# Altium integrated library rcl.IntLib: 895 symbols (part 2 of 3)
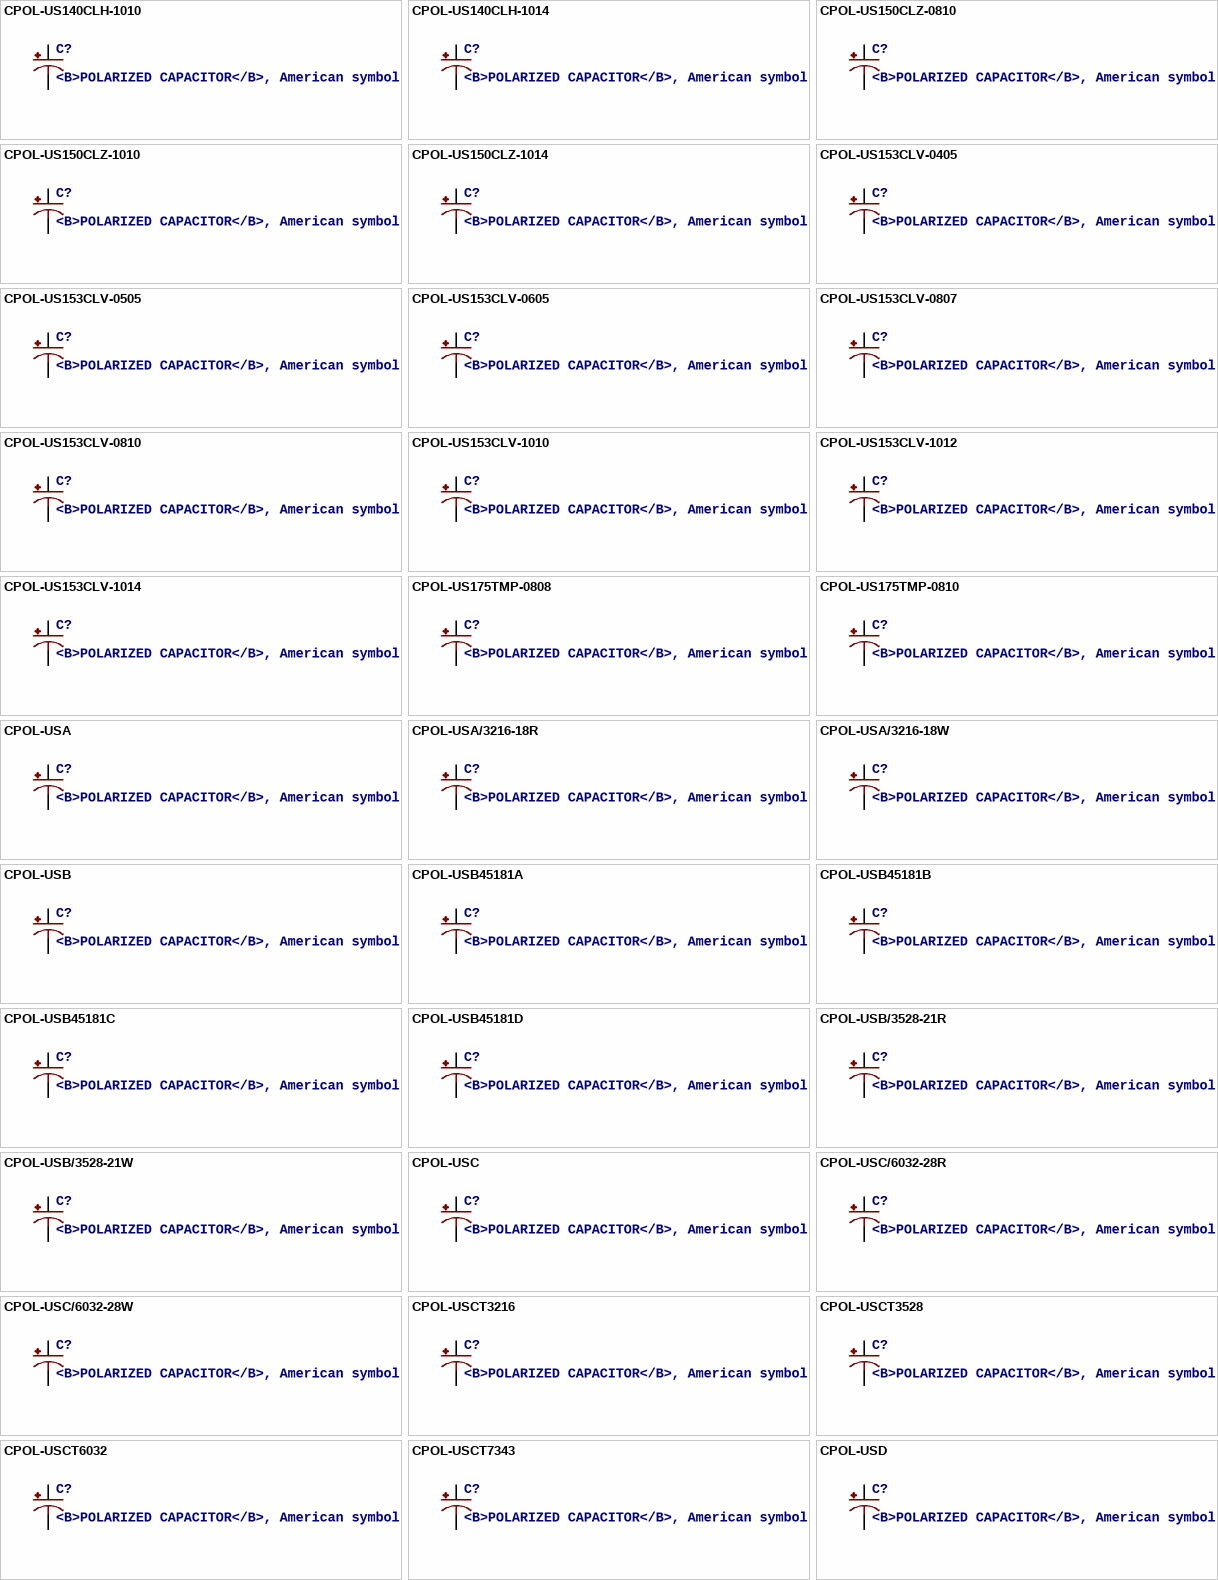
[diagram p24: symbols CPOL-US140CLH-1010 to CPOL-USD]

## CPOL-USC
designator C?, comment <B>POLARIZED CAPACITOR</B>, American symbol
SPICEPREFIX: C
footprint PANASONIC_C
pins: +, -

## CPOL-USC/6032-28R
designator C?, comment <B>POLARIZED CAPACITOR</B>, American symbol
SPICEPREFIX: C
footprint C/6032-28R
pins: +, -

## CPOL-USC/6032-28W
designator C?, comment <B>POLARIZED CAPACITOR</B>, American symbol
SPICEPREFIX: C
footprint C/6032-28W
pins: +, -

## CPOL-USCT3216
designator C?, comment <B>POLARIZED CAPACITOR</B>, American symbol
SPICEPREFIX: C
footprint CT3216
pins: +, -

## CPOL-USCT3528
designator C?, comment <B>POLARIZED CAPACITOR</B>, American symbol
SPICEPREFIX: C
footprint CT3528
pins: +, -

## CPOL-USCT6032
designator C?, comment <B>POLARIZED CAPACITOR</B>, American symbol
SPICEPREFIX: C
footprint CT6032
pins: +, -

## CPOL-USCT7343
designator C?, comment <B>POLARIZED CAPACITOR</B>, American symbol
SPICEPREFIX: C
footprint CT7343
pins: +, -

## CPOL-USD
designator C?, comment <B>POLARIZED CAPACITOR</B>, American symbol
SPICEPREFIX: C
footprint PANASONIC_D
pins: +, -

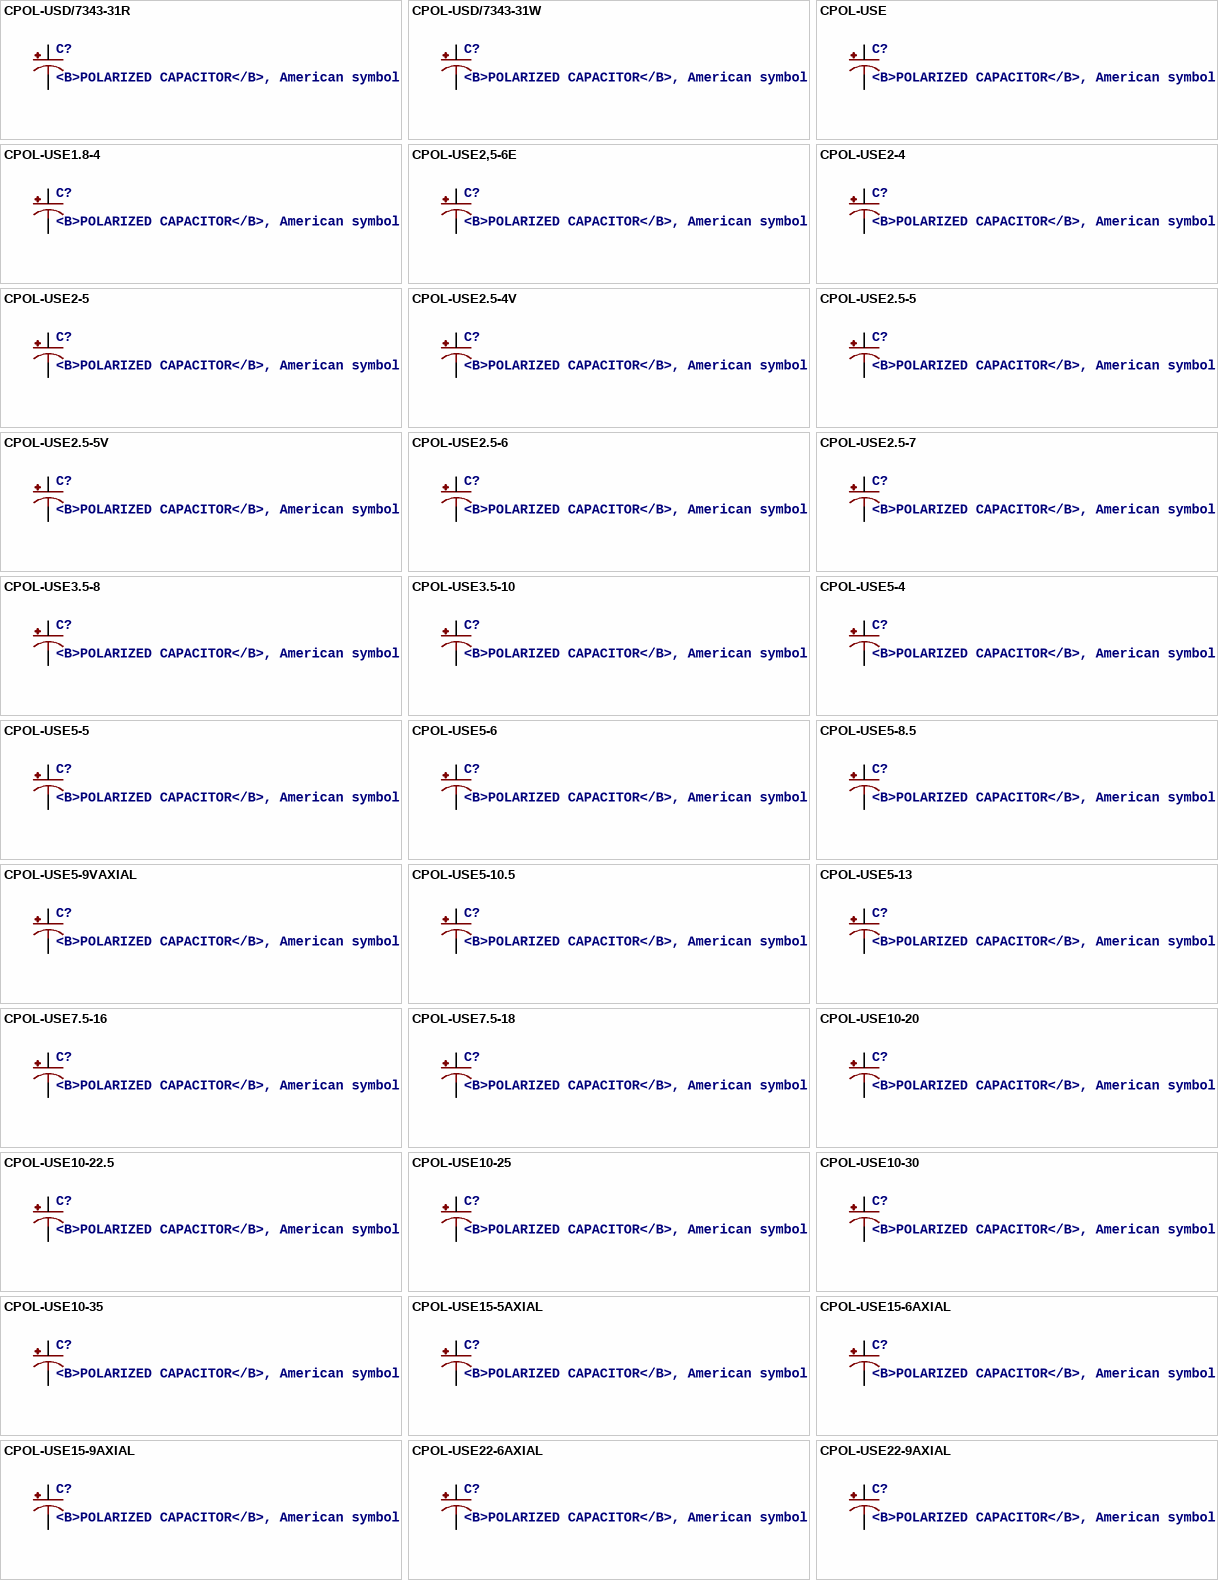
[diagram p10: symbols CPOL-USD/7343-31R to CPOL-USE22-9AXIAL]

## CPOL-USD/7343-31R
designator C?, comment <B>POLARIZED CAPACITOR</B>, American symbol
SPICEPREFIX: C
footprint D/7343-31R
pins: +, -

## CPOL-USD/7343-31W
designator C?, comment <B>POLARIZED CAPACITOR</B>, American symbol
SPICEPREFIX: C
footprint D/7343-31W
pins: +, -

## CPOL-USE
designator C?, comment <B>POLARIZED CAPACITOR</B>, American symbol
SPICEPREFIX: C
footprint PANASONIC_E
pins: +, -

## CPOL-USE1.8-4
designator C?, comment <B>POLARIZED CAPACITOR</B>, American symbol
SPICEPREFIX: C
footprint E1,8-4
pins: +, -

## CPOL-USE2,5-6E
designator C?, comment <B>POLARIZED CAPACITOR</B>, American symbol
SPICEPREFIX: C
footprint E2,5-6E
pins: +, -

## CPOL-USE2-4
designator C?, comment <B>POLARIZED CAPACITOR</B>, American symbol
SPICEPREFIX: C
footprint E2-4
pins: +, -

## CPOL-USE2-5
designator C?, comment <B>POLARIZED CAPACITOR</B>, American symbol
SPICEPREFIX: C
footprint E2-5
pins: +, -

## CPOL-USE2.5-4V
designator C?, comment <B>POLARIZED CAPACITOR</B>, American symbol
SPICEPREFIX: C
footprint E2,5RE
pins: +, -

## CPOL-USE2.5-5
designator C?, comment <B>POLARIZED CAPACITOR</B>, American symbol
SPICEPREFIX: C
footprint E2,5-5
pins: +, -

## CPOL-USE2.5-5V
designator C?, comment <B>POLARIZED CAPACITOR</B>, American symbol
SPICEPREFIX: C
footprint E2,5-4R
pins: +, -

## CPOL-USE2.5-6
designator C?, comment <B>POLARIZED CAPACITOR</B>, American symbol
SPICEPREFIX: C
footprint E2,5-6
pins: +, -

## CPOL-USE2.5-7
designator C?, comment <B>POLARIZED CAPACITOR</B>, American symbol
SPICEPREFIX: C
footprint E2,5-7
pins: +, -

## CPOL-USE3.5-8
designator C?, comment <B>POLARIZED CAPACITOR</B>, American symbol
SPICEPREFIX: C
footprint E3,5-8
pins: +, -

## CPOL-USE3.5-10
designator C?, comment <B>POLARIZED CAPACITOR</B>, American symbol
SPICEPREFIX: C
footprint E3,5-10
pins: +, -

## CPOL-USE5-4
designator C?, comment <B>POLARIZED CAPACITOR</B>, American symbol
SPICEPREFIX: C
footprint E5-4
pins: +, -

## CPOL-USE5-5
designator C?, comment <B>POLARIZED CAPACITOR</B>, American symbol
SPICEPREFIX: C
footprint E5-5
pins: +, -

## CPOL-USE5-6
designator C?, comment <B>POLARIZED CAPACITOR</B>, American symbol
SPICEPREFIX: C
footprint E5-6
pins: +, -

## CPOL-USE5-8.5
designator C?, comment <B>POLARIZED CAPACITOR</B>, American symbol
SPICEPREFIX: C
footprint E5-8,5
pins: +, -

## CPOL-USE5-9VAXIAL
designator C?, comment <B>POLARIZED CAPACITOR</B>, American symbol
SPICEPREFIX: C
footprint E5R
pins: +, -

## CPOL-USE5-10.5
designator C?, comment <B>POLARIZED CAPACITOR</B>, American symbol
SPICEPREFIX: C
footprint E5-10,5
pins: +, -

## CPOL-USE5-13
designator C?, comment <B>POLARIZED CAPACITOR</B>, American symbol
SPICEPREFIX: C
footprint E5-13
pins: +, -

## CPOL-USE7.5-16
designator C?, comment <B>POLARIZED CAPACITOR</B>, American symbol
SPICEPREFIX: C
footprint E7,5-16
pins: +, -

## CPOL-USE7.5-18
designator C?, comment <B>POLARIZED CAPACITOR</B>, American symbol
SPICEPREFIX: C
footprint E7,5-18
pins: +, -

## CPOL-USE10-20
designator C?, comment <B>POLARIZED CAPACITOR</B>, American symbol
SPICEPREFIX: C
footprint EB20D
pins: +, -

## CPOL-USE10-22.5
designator C?, comment <B>POLARIZED CAPACITOR</B>, American symbol
SPICEPREFIX: C
footprint EB22,5D
pins: +, -

## CPOL-USE10-25
designator C?, comment <B>POLARIZED CAPACITOR</B>, American symbol
SPICEPREFIX: C
footprint EB25D
pins: +, -

## CPOL-USE10-30
designator C?, comment <B>POLARIZED CAPACITOR</B>, American symbol
SPICEPREFIX: C
footprint EB30D
pins: +, -

## CPOL-USE10-35
designator C?, comment <B>POLARIZED CAPACITOR</B>, American symbol
SPICEPREFIX: C
footprint EB35D
pins: +, -

## CPOL-USE15-5AXIAL
designator C?, comment <B>POLARIZED CAPACITOR</B>, American symbol
SPICEPREFIX: C
footprint E15-5
pins: +, -

## CPOL-USE15-6AXIAL
designator C?, comment <B>POLARIZED CAPACITOR</B>, American symbol
SPICEPREFIX: C
footprint E15-6
pins: +, -

## CPOL-USE15-9AXIAL
designator C?, comment <B>POLARIZED CAPACITOR</B>, American symbol
SPICEPREFIX: C
footprint E15-9
pins: +, -

## CPOL-USE22-6AXIAL
designator C?, comment <B>POLARIZED CAPACITOR</B>, American symbol
SPICEPREFIX: C
footprint E22-6
pins: +, -

## CPOL-USE22-9AXIAL
designator C?, comment <B>POLARIZED CAPACITOR</B>, American symbol
SPICEPREFIX: C
footprint E22-9
pins: +, -

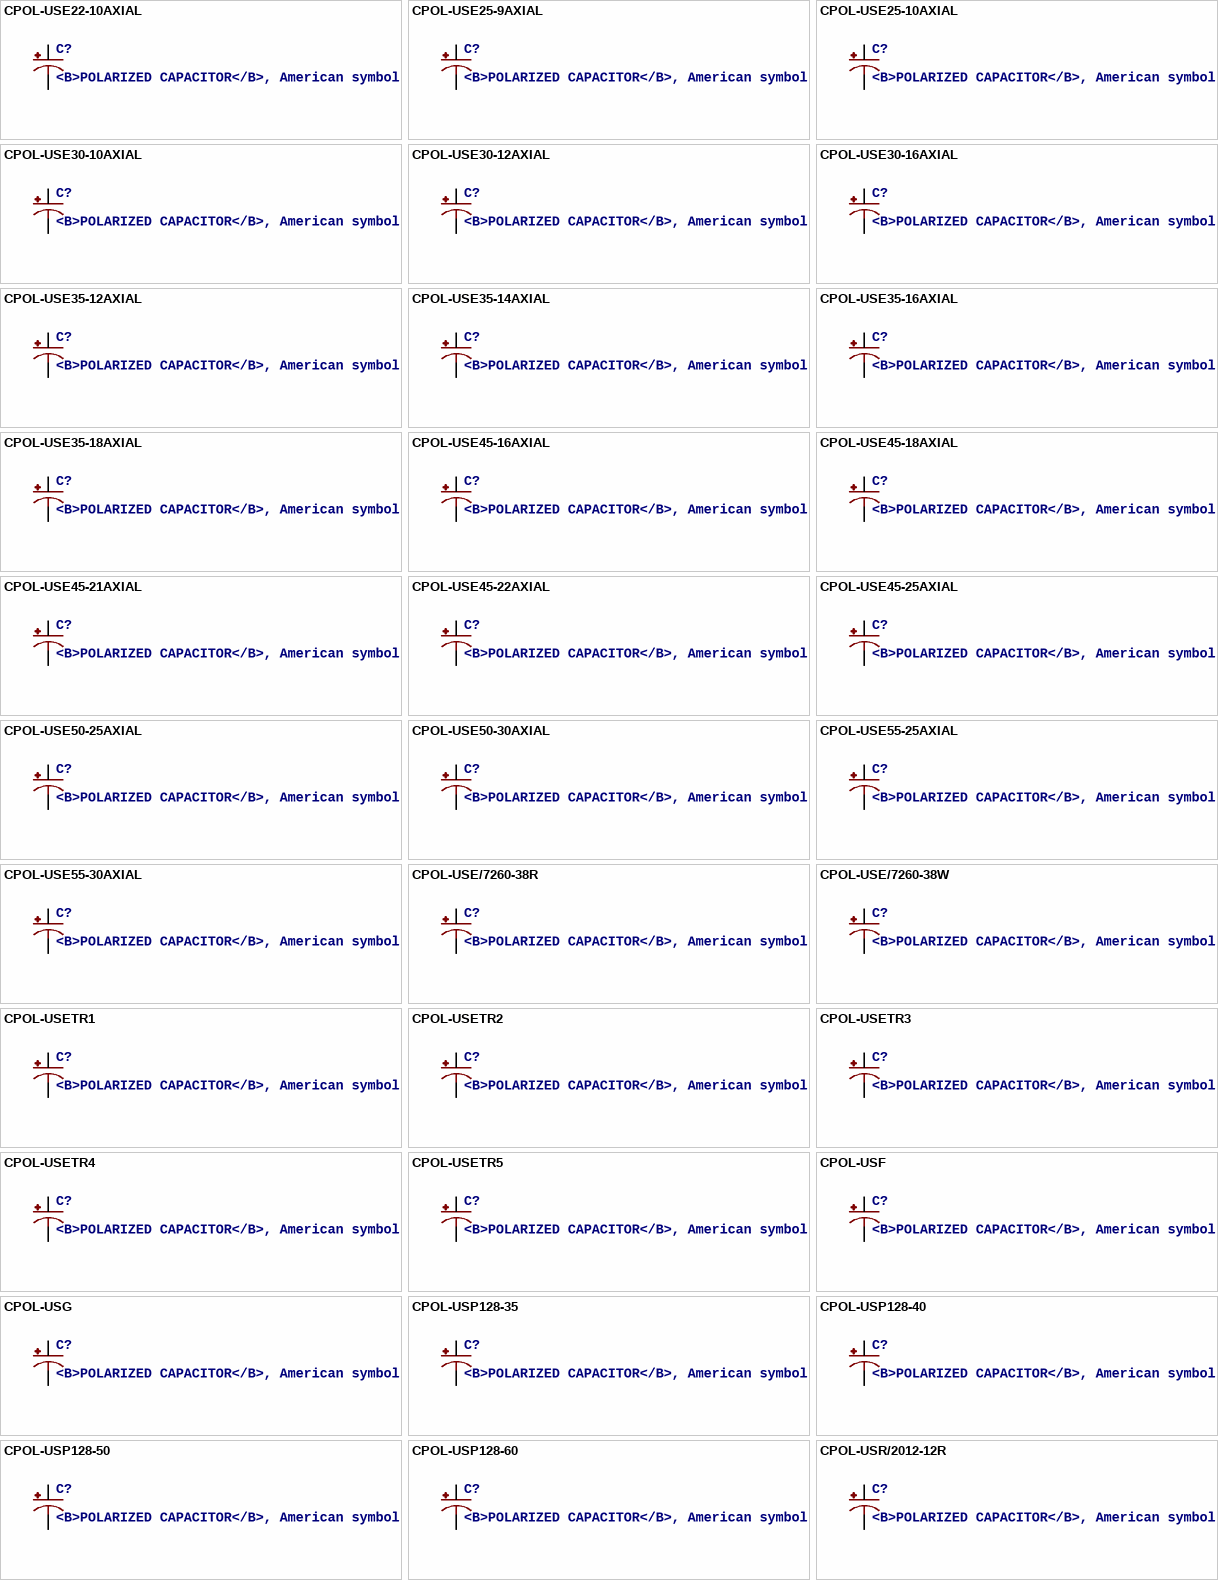
[diagram p11: symbols CPOL-USE22-10AXIAL to CPOL-USR/2012-12R]

## CPOL-USE22-10AXIAL
designator C?, comment <B>POLARIZED CAPACITOR</B>, American symbol
SPICEPREFIX: C
footprint E22-10
pins: +, -

## CPOL-USE25-9AXIAL
designator C?, comment <B>POLARIZED CAPACITOR</B>, American symbol
SPICEPREFIX: C
footprint E25-9
pins: +, -

## CPOL-USE25-10AXIAL
designator C?, comment <B>POLARIZED CAPACITOR</B>, American symbol
SPICEPREFIX: C
footprint E25-10
pins: +, -

## CPOL-USE30-10AXIAL
designator C?, comment <B>POLARIZED CAPACITOR</B>, American symbol
SPICEPREFIX: C
footprint E30-10
pins: +, -

## CPOL-USE30-12AXIAL
designator C?, comment <B>POLARIZED CAPACITOR</B>, American symbol
SPICEPREFIX: C
footprint E30-12
pins: +, -

## CPOL-USE30-16AXIAL
designator C?, comment <B>POLARIZED CAPACITOR</B>, American symbol
SPICEPREFIX: C
footprint E30-16
pins: +, -

## CPOL-USE35-12AXIAL
designator C?, comment <B>POLARIZED CAPACITOR</B>, American symbol
SPICEPREFIX: C
footprint E35-12
pins: +, -

## CPOL-USE35-14AXIAL
designator C?, comment <B>POLARIZED CAPACITOR</B>, American symbol
SPICEPREFIX: C
footprint E35-14
pins: +, -

## CPOL-USE35-16AXIAL
designator C?, comment <B>POLARIZED CAPACITOR</B>, American symbol
SPICEPREFIX: C
footprint E35-16
pins: +, -

## CPOL-USE35-18AXIAL
designator C?, comment <B>POLARIZED CAPACITOR</B>, American symbol
SPICEPREFIX: C
footprint E35-18
pins: +, -

## CPOL-USE45-16AXIAL
designator C?, comment <B>POLARIZED CAPACITOR</B>, American symbol
SPICEPREFIX: C
footprint E45-16
pins: +, -

## CPOL-USE45-18AXIAL
designator C?, comment <B>POLARIZED CAPACITOR</B>, American symbol
SPICEPREFIX: C
footprint E45-18
pins: +, -

## CPOL-USE45-21AXIAL
designator C?, comment <B>POLARIZED CAPACITOR</B>, American symbol
SPICEPREFIX: C
footprint E45-21
pins: +, -

## CPOL-USE45-22AXIAL
designator C?, comment <B>POLARIZED CAPACITOR</B>, American symbol
SPICEPREFIX: C
footprint E45-22
pins: +, -

## CPOL-USE45-25AXIAL
designator C?, comment <B>POLARIZED CAPACITOR</B>, American symbol
SPICEPREFIX: C
footprint E45-25
pins: +, -

## CPOL-USE50-25AXIAL
designator C?, comment <B>POLARIZED CAPACITOR</B>, American symbol
SPICEPREFIX: C
footprint E50-25
pins: +, -

## CPOL-USE50-30AXIAL
designator C?, comment <B>POLARIZED CAPACITOR</B>, American symbol
SPICEPREFIX: C
footprint E50-30
pins: +, -

## CPOL-USE55-25AXIAL
designator C?, comment <B>POLARIZED CAPACITOR</B>, American symbol
SPICEPREFIX: C
footprint E55-25
pins: +, -

## CPOL-USE55-30AXIAL
designator C?, comment <B>POLARIZED CAPACITOR</B>, American symbol
SPICEPREFIX: C
footprint E55-30
pins: +, -

## CPOL-USE/7260-38R
designator C?, comment <B>POLARIZED CAPACITOR</B>, American symbol
SPICEPREFIX: C
footprint E/7260-38R
pins: +, -

## CPOL-USE/7260-38W
designator C?, comment <B>POLARIZED CAPACITOR</B>, American symbol
SPICEPREFIX: C
footprint E/7260-38W
pins: +, -

## CPOL-USETR1
designator C?, comment <B>POLARIZED CAPACITOR</B>, American symbol
SPICEPREFIX: C
footprint ETR1
pins: +, -

## CPOL-USETR2
designator C?, comment <B>POLARIZED CAPACITOR</B>, American symbol
SPICEPREFIX: C
footprint ETR2
pins: +, -

## CPOL-USETR3
designator C?, comment <B>POLARIZED CAPACITOR</B>, American symbol
SPICEPREFIX: C
footprint ETR3
pins: +, -

## CPOL-USETR4
designator C?, comment <B>POLARIZED CAPACITOR</B>, American symbol
SPICEPREFIX: C
footprint ETR4
pins: +, -

## CPOL-USETR5
designator C?, comment <B>POLARIZED CAPACITOR</B>, American symbol
SPICEPREFIX: C
footprint ETR5
pins: +, -

## CPOL-USF
designator C?, comment <B>POLARIZED CAPACITOR</B>, American symbol
SPICEPREFIX: C
footprint PANASONIC_F
pins: +, -

## CPOL-USG
designator C?, comment <B>POLARIZED CAPACITOR</B>, American symbol
SPICEPREFIX: C
footprint PANASONIC_G
pins: +, -

## CPOL-USP128-35
designator C?, comment <B>POLARIZED CAPACITOR</B>, American symbol
SPICEPREFIX: C
footprint P128-35
pins: +, -

## CPOL-USP128-40
designator C?, comment <B>POLARIZED CAPACITOR</B>, American symbol
SPICEPREFIX: C
footprint P128-40
pins: +, -

## CPOL-USP128-50
designator C?, comment <B>POLARIZED CAPACITOR</B>, American symbol
SPICEPREFIX: C
footprint P128-50
pins: +, -

## CPOL-USP128-60
designator C?, comment <B>POLARIZED CAPACITOR</B>, American symbol
SPICEPREFIX: C
footprint P128-60
pins: +, -

## CPOL-USR/2012-12R
designator C?, comment <B>POLARIZED CAPACITOR</B>, American symbol
SPICEPREFIX: C
footprint R/2012-12R
pins: +, -

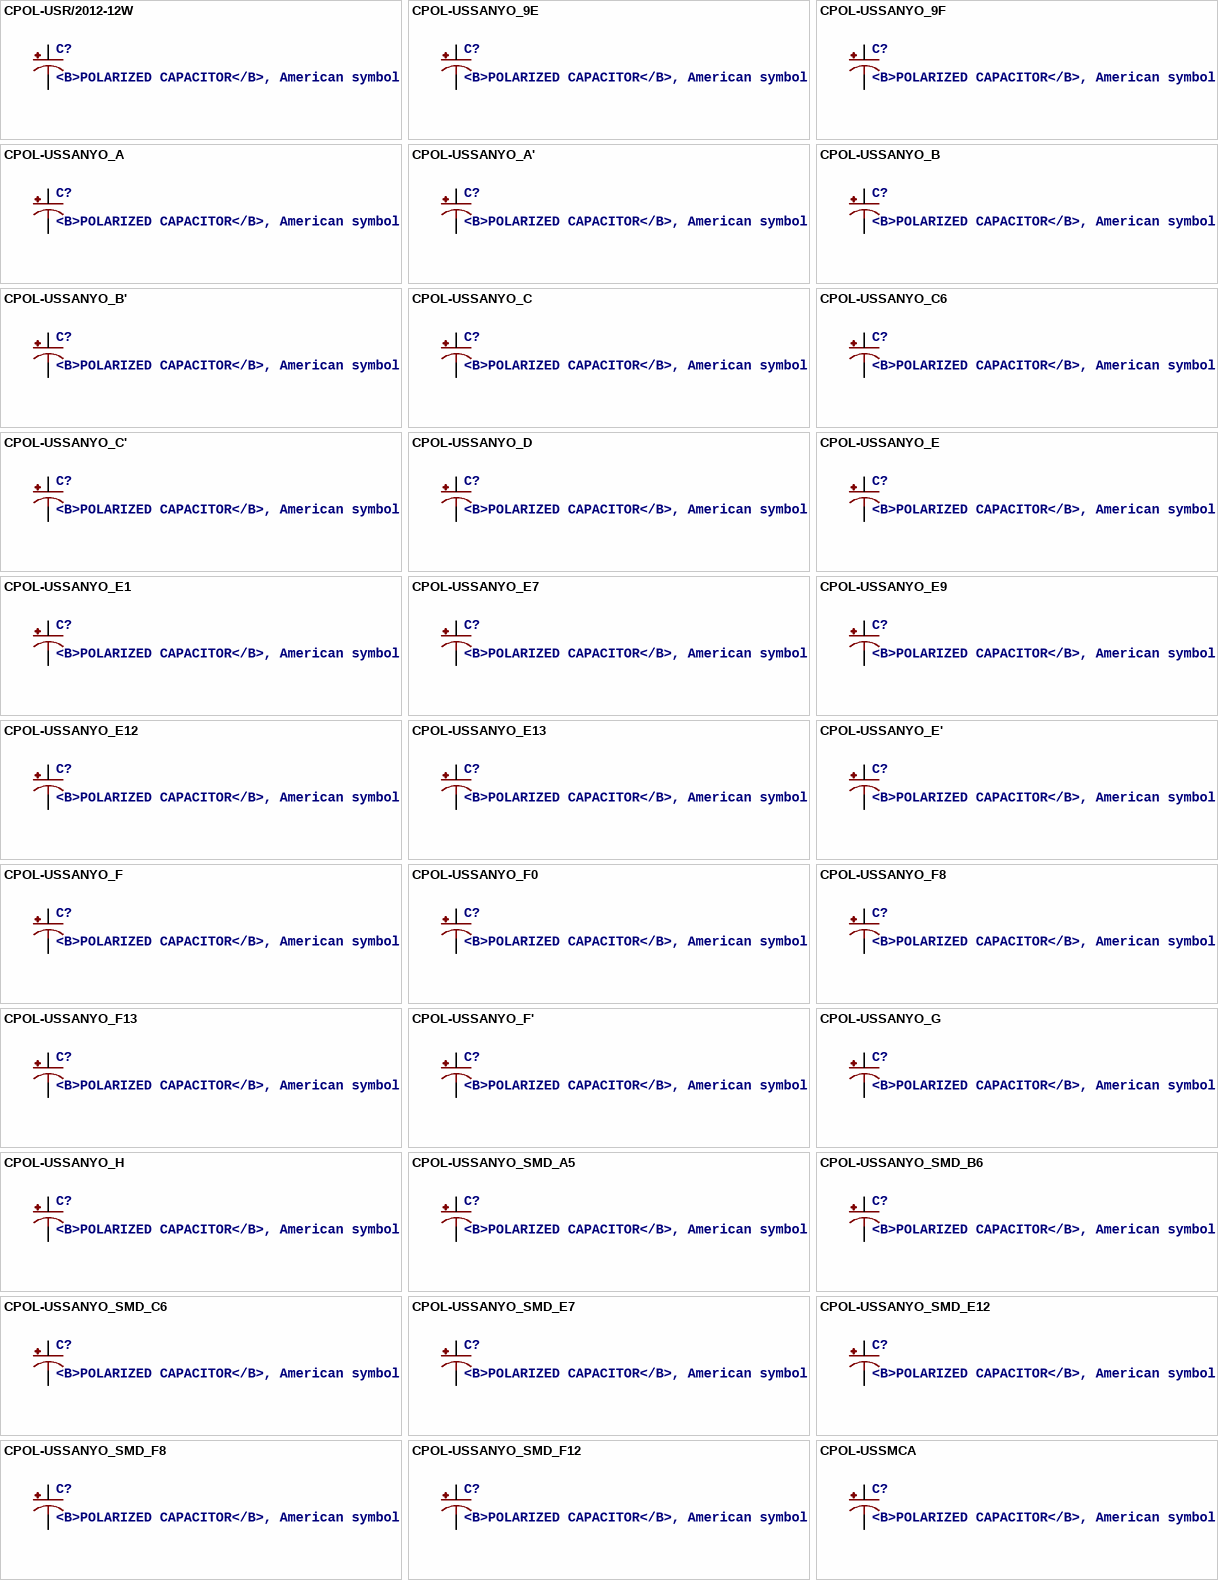
[diagram p12: symbols CPOL-USR/2012-12W to CPOL-USSMCA]

## CPOL-USR/2012-12W
designator C?, comment <B>POLARIZED CAPACITOR</B>, American symbol
SPICEPREFIX: C
footprint R/2012-12W
pins: +, -

## CPOL-USSANYO_9E
designator C?, comment <B>POLARIZED CAPACITOR</B>, American symbol
SPICEPREFIX: C
footprint SANYO-OSCON_9E
pins: +, -

## CPOL-USSANYO_9F
designator C?, comment <B>POLARIZED CAPACITOR</B>, American symbol
SPICEPREFIX: C
footprint SANYO-OSCON_9F
pins: +, -

## CPOL-USSANYO_A
designator C?, comment <B>POLARIZED CAPACITOR</B>, American symbol
SPICEPREFIX: C
footprint SANYO-OSCON_A
pins: +, -

## CPOL-USSANYO_A'
designator C?, comment <B>POLARIZED CAPACITOR</B>, American symbol
SPICEPREFIX: C
footprint SANYO-OSCON_A'
pins: +, -

## CPOL-USSANYO_B
designator C?, comment <B>POLARIZED CAPACITOR</B>, American symbol
SPICEPREFIX: C
footprint SANYO-OSCON_B
pins: +, -

## CPOL-USSANYO_B'
designator C?, comment <B>POLARIZED CAPACITOR</B>, American symbol
SPICEPREFIX: C
footprint SANYO-OSCON_B'
pins: +, -

## CPOL-USSANYO_C
designator C?, comment <B>POLARIZED CAPACITOR</B>, American symbol
SPICEPREFIX: C
footprint SANYO-OSCON_C
pins: +, -

## CPOL-USSANYO_C6
designator C?, comment <B>POLARIZED CAPACITOR</B>, American symbol
SPICEPREFIX: C
footprint SANYO-OSCON_C6
pins: +, -

## CPOL-USSANYO_C'
designator C?, comment <B>POLARIZED CAPACITOR</B>, American symbol
SPICEPREFIX: C
footprint SANYO-OSCON_C'
pins: +, -

## CPOL-USSANYO_D
designator C?, comment <B>POLARIZED CAPACITOR</B>, American symbol
SPICEPREFIX: C
footprint SANYO-OSCON_D
pins: +, -

## CPOL-USSANYO_E
designator C?, comment <B>POLARIZED CAPACITOR</B>, American symbol
SPICEPREFIX: C
footprint SANYO-OSCON_E
pins: +, -

## CPOL-USSANYO_E1
designator C?, comment <B>POLARIZED CAPACITOR</B>, American symbol
SPICEPREFIX: C
footprint SANYO-OSCON_E1
pins: +, -

## CPOL-USSANYO_E7
designator C?, comment <B>POLARIZED CAPACITOR</B>, American symbol
SPICEPREFIX: C
footprint SANYO-OSCON_E7
pins: +, -

## CPOL-USSANYO_E9
designator C?, comment <B>POLARIZED CAPACITOR</B>, American symbol
SPICEPREFIX: C
footprint SANYO-OSCON_E9
pins: +, -

## CPOL-USSANYO_E12
designator C?, comment <B>POLARIZED CAPACITOR</B>, American symbol
SPICEPREFIX: C
footprint SANYO-OSCON_E12
pins: +, -

## CPOL-USSANYO_E13
designator C?, comment <B>POLARIZED CAPACITOR</B>, American symbol
SPICEPREFIX: C
footprint SANYO-OSCON_E13
pins: +, -

## CPOL-USSANYO_E'
designator C?, comment <B>POLARIZED CAPACITOR</B>, American symbol
SPICEPREFIX: C
footprint SANYO-OSCON_E'
pins: +, -

## CPOL-USSANYO_F
designator C?, comment <B>POLARIZED CAPACITOR</B>, American symbol
SPICEPREFIX: C
footprint SANYO-OSCON_F
pins: +, -

## CPOL-USSANYO_F0
designator C?, comment <B>POLARIZED CAPACITOR</B>, American symbol
SPICEPREFIX: C
footprint SANYO-OSCON_F0
pins: +, -

## CPOL-USSANYO_F8
designator C?, comment <B>POLARIZED CAPACITOR</B>, American symbol
SPICEPREFIX: C
footprint SANYO-OSCON_F8
pins: +, -

## CPOL-USSANYO_F13
designator C?, comment <B>POLARIZED CAPACITOR</B>, American symbol
SPICEPREFIX: C
footprint SANYO-OSCON_F13
pins: +, -

## CPOL-USSANYO_F'
designator C?, comment <B>POLARIZED CAPACITOR</B>, American symbol
SPICEPREFIX: C
footprint SANYO-OSCON_F'
pins: +, -

## CPOL-USSANYO_G
designator C?, comment <B>POLARIZED CAPACITOR</B>, American symbol
SPICEPREFIX: C
footprint SANYO-OSCON_G
pins: +, -

## CPOL-USSANYO_H
designator C?, comment <B>POLARIZED CAPACITOR</B>, American symbol
SPICEPREFIX: C
footprint SANYO-OSCON_H
pins: +, -

## CPOL-USSANYO_SMD_A5
designator C?, comment <B>POLARIZED CAPACITOR</B>, American symbol
SPICEPREFIX: C
footprint SANYO-OSCON_SMD_A5
pins: +, -

## CPOL-USSANYO_SMD_B6
designator C?, comment <B>POLARIZED CAPACITOR</B>, American symbol
SPICEPREFIX: C
footprint SANYO-OSCON_SMD_B6
pins: +, -

## CPOL-USSANYO_SMD_C6
designator C?, comment <B>POLARIZED CAPACITOR</B>, American symbol
SPICEPREFIX: C
footprint SANYO-OSCON_SMD_C6
pins: +, -

## CPOL-USSANYO_SMD_E7
designator C?, comment <B>POLARIZED CAPACITOR</B>, American symbol
SPICEPREFIX: C
footprint SANYO-OSCON_SMD_E7
pins: +, -

## CPOL-USSANYO_SMD_E12
designator C?, comment <B>POLARIZED CAPACITOR</B>, American symbol
SPICEPREFIX: C
footprint SANYO-OSCON_SMD_E12
pins: +, -

## CPOL-USSANYO_SMD_F8
designator C?, comment <B>POLARIZED CAPACITOR</B>, American symbol
SPICEPREFIX: C
footprint SANYO-OSCON_SMD_F8
pins: +, -

## CPOL-USSANYO_SMD_F12
designator C?, comment <B>POLARIZED CAPACITOR</B>, American symbol
SPICEPREFIX: C
footprint SANYO-OSCON_SMD_F12
pins: +, -

## CPOL-USSMCA
designator C?, comment <B>POLARIZED CAPACITOR</B>, American symbol
SPICEPREFIX: C
footprint SMC_A
pins: +, -

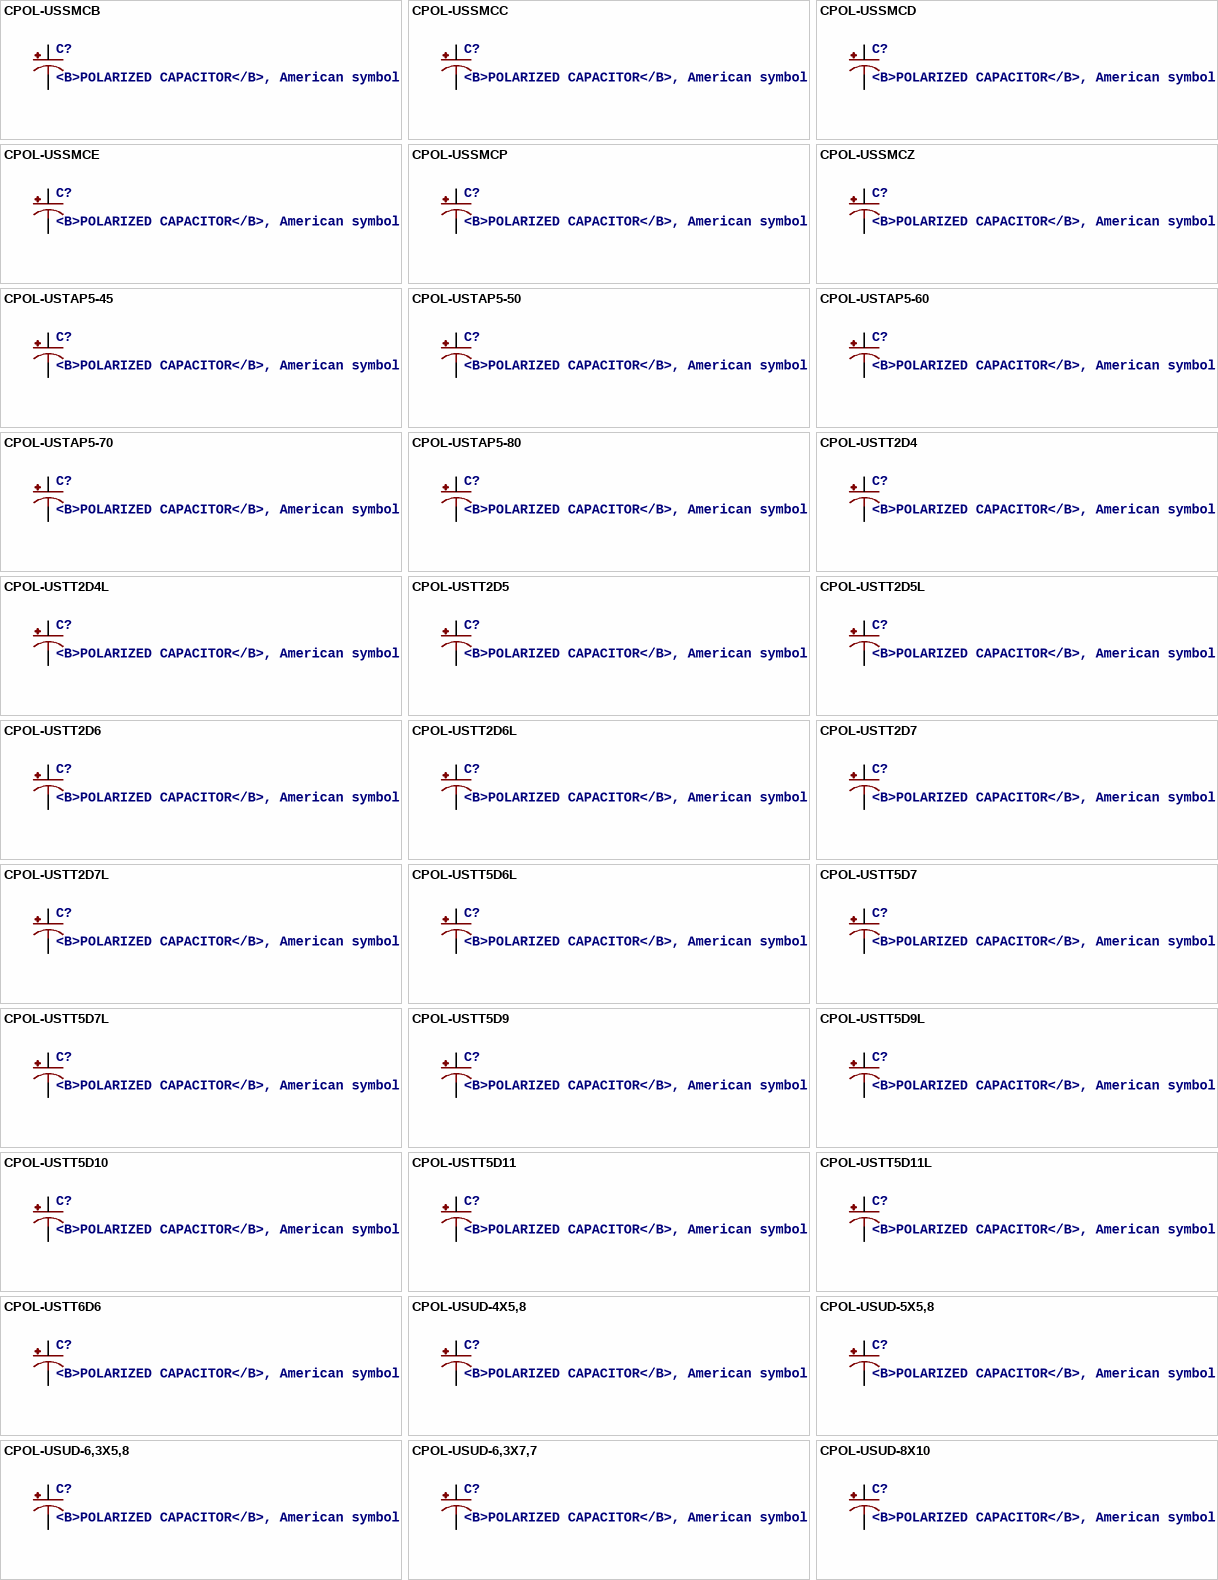
[diagram p13: symbols CPOL-USSMCB to CPOL-USUD-8X10]

## CPOL-USSMCB
designator C?, comment <B>POLARIZED CAPACITOR</B>, American symbol
SPICEPREFIX: C
footprint SMC_B
pins: +, -

## CPOL-USSMCC
designator C?, comment <B>POLARIZED CAPACITOR</B>, American symbol
SPICEPREFIX: C
footprint SMC_C
pins: +, -

## CPOL-USSMCD
designator C?, comment <B>POLARIZED CAPACITOR</B>, American symbol
SPICEPREFIX: C
footprint SMC_D
pins: +, -

## CPOL-USSMCE
designator C?, comment <B>POLARIZED CAPACITOR</B>, American symbol
SPICEPREFIX: C
footprint SMC_E
pins: +, -

## CPOL-USSMCP
designator C?, comment <B>POLARIZED CAPACITOR</B>, American symbol
SPICEPREFIX: C
footprint SMC_P
pins: +, -

## CPOL-USSMCZ
designator C?, comment <B>POLARIZED CAPACITOR</B>, American symbol
SPICEPREFIX: C
footprint SMC_Z
pins: +, -

## CPOL-USTAP5-45
designator C?, comment <B>POLARIZED CAPACITOR</B>, American symbol
SPICEPREFIX: C
footprint TAP5-45
pins: +, -

## CPOL-USTAP5-50
designator C?, comment <B>POLARIZED CAPACITOR</B>, American symbol
SPICEPREFIX: C
footprint TAP5-50
pins: +, -

## CPOL-USTAP5-60
designator C?, comment <B>POLARIZED CAPACITOR</B>, American symbol
SPICEPREFIX: C
footprint TAP5-60
pins: +, -

## CPOL-USTAP5-70
designator C?, comment <B>POLARIZED CAPACITOR</B>, American symbol
SPICEPREFIX: C
footprint TAP5-70
pins: +, -

## CPOL-USTAP5-80
designator C?, comment <B>POLARIZED CAPACITOR</B>, American symbol
SPICEPREFIX: C
footprint TAP5-80
pins: +, -

## CPOL-USTT2D4
designator C?, comment <B>POLARIZED CAPACITOR</B>, American symbol
SPICEPREFIX: C
footprint TT2D4
pins: +, -

## CPOL-USTT2D4L
designator C?, comment <B>POLARIZED CAPACITOR</B>, American symbol
SPICEPREFIX: C
footprint TT2D4L
pins: +, -

## CPOL-USTT2D5
designator C?, comment <B>POLARIZED CAPACITOR</B>, American symbol
SPICEPREFIX: C
footprint TT2D5
pins: +, -

## CPOL-USTT2D5L
designator C?, comment <B>POLARIZED CAPACITOR</B>, American symbol
SPICEPREFIX: C
footprint TT2D5L
pins: +, -

## CPOL-USTT2D6
designator C?, comment <B>POLARIZED CAPACITOR</B>, American symbol
SPICEPREFIX: C
footprint TT2D6
pins: +, -

## CPOL-USTT2D6L
designator C?, comment <B>POLARIZED CAPACITOR</B>, American symbol
SPICEPREFIX: C
footprint TT2D6L
pins: +, -

## CPOL-USTT2D7
designator C?, comment <B>POLARIZED CAPACITOR</B>, American symbol
SPICEPREFIX: C
footprint TT2D7
pins: +, -

## CPOL-USTT2D7L
designator C?, comment <B>POLARIZED CAPACITOR</B>, American symbol
SPICEPREFIX: C
footprint TT2D7L
pins: +, -

## CPOL-USTT5D6L
designator C?, comment <B>POLARIZED CAPACITOR</B>, American symbol
SPICEPREFIX: C
footprint TT5D6L
pins: +, -

## CPOL-USTT5D7
designator C?, comment <B>POLARIZED CAPACITOR</B>, American symbol
SPICEPREFIX: C
footprint TT5D7
pins: +, -

## CPOL-USTT5D7L
designator C?, comment <B>POLARIZED CAPACITOR</B>, American symbol
SPICEPREFIX: C
footprint TT5D7L
pins: +, -

## CPOL-USTT5D9
designator C?, comment <B>POLARIZED CAPACITOR</B>, American symbol
SPICEPREFIX: C
footprint TT5D9
pins: +, -

## CPOL-USTT5D9L
designator C?, comment <B>POLARIZED CAPACITOR</B>, American symbol
SPICEPREFIX: C
footprint TT5D9L
pins: +, -

## CPOL-USTT5D10
designator C?, comment <B>POLARIZED CAPACITOR</B>, American symbol
SPICEPREFIX: C
footprint TT5D10
pins: +, -

## CPOL-USTT5D11
designator C?, comment <B>POLARIZED CAPACITOR</B>, American symbol
SPICEPREFIX: C
footprint TT5D11
pins: +, -

## CPOL-USTT5D11L
designator C?, comment <B>POLARIZED CAPACITOR</B>, American symbol
SPICEPREFIX: C
footprint TT5D11L
pins: +, -

## CPOL-USTT6D6
designator C?, comment <B>POLARIZED CAPACITOR</B>, American symbol
SPICEPREFIX: C
footprint TT5D6
pins: +, -

## CPOL-USUD-4X5,8
designator C?, comment <B>POLARIZED CAPACITOR</B>, American symbol
SPICEPREFIX: C
footprint UD-4X5,8_NICHICON
pins: +, -

## CPOL-USUD-5X5,8
designator C?, comment <B>POLARIZED CAPACITOR</B>, American symbol
SPICEPREFIX: C
footprint UD-5X5,8_NICHICON
pins: +, -

## CPOL-USUD-6,3X5,8
designator C?, comment <B>POLARIZED CAPACITOR</B>, American symbol
SPICEPREFIX: C
footprint UD-6,3X5,8_NICHICON
pins: +, -

## CPOL-USUD-6,3X7,7
designator C?, comment <B>POLARIZED CAPACITOR</B>, American symbol
SPICEPREFIX: C
footprint UD-6,3X7,7_NICHICON
pins: +, -

## CPOL-USUD-8X10
designator C?, comment <B>POLARIZED CAPACITOR</B>, American symbol
SPICEPREFIX: C
footprint UD-8X10_NICHICON
pins: +, -

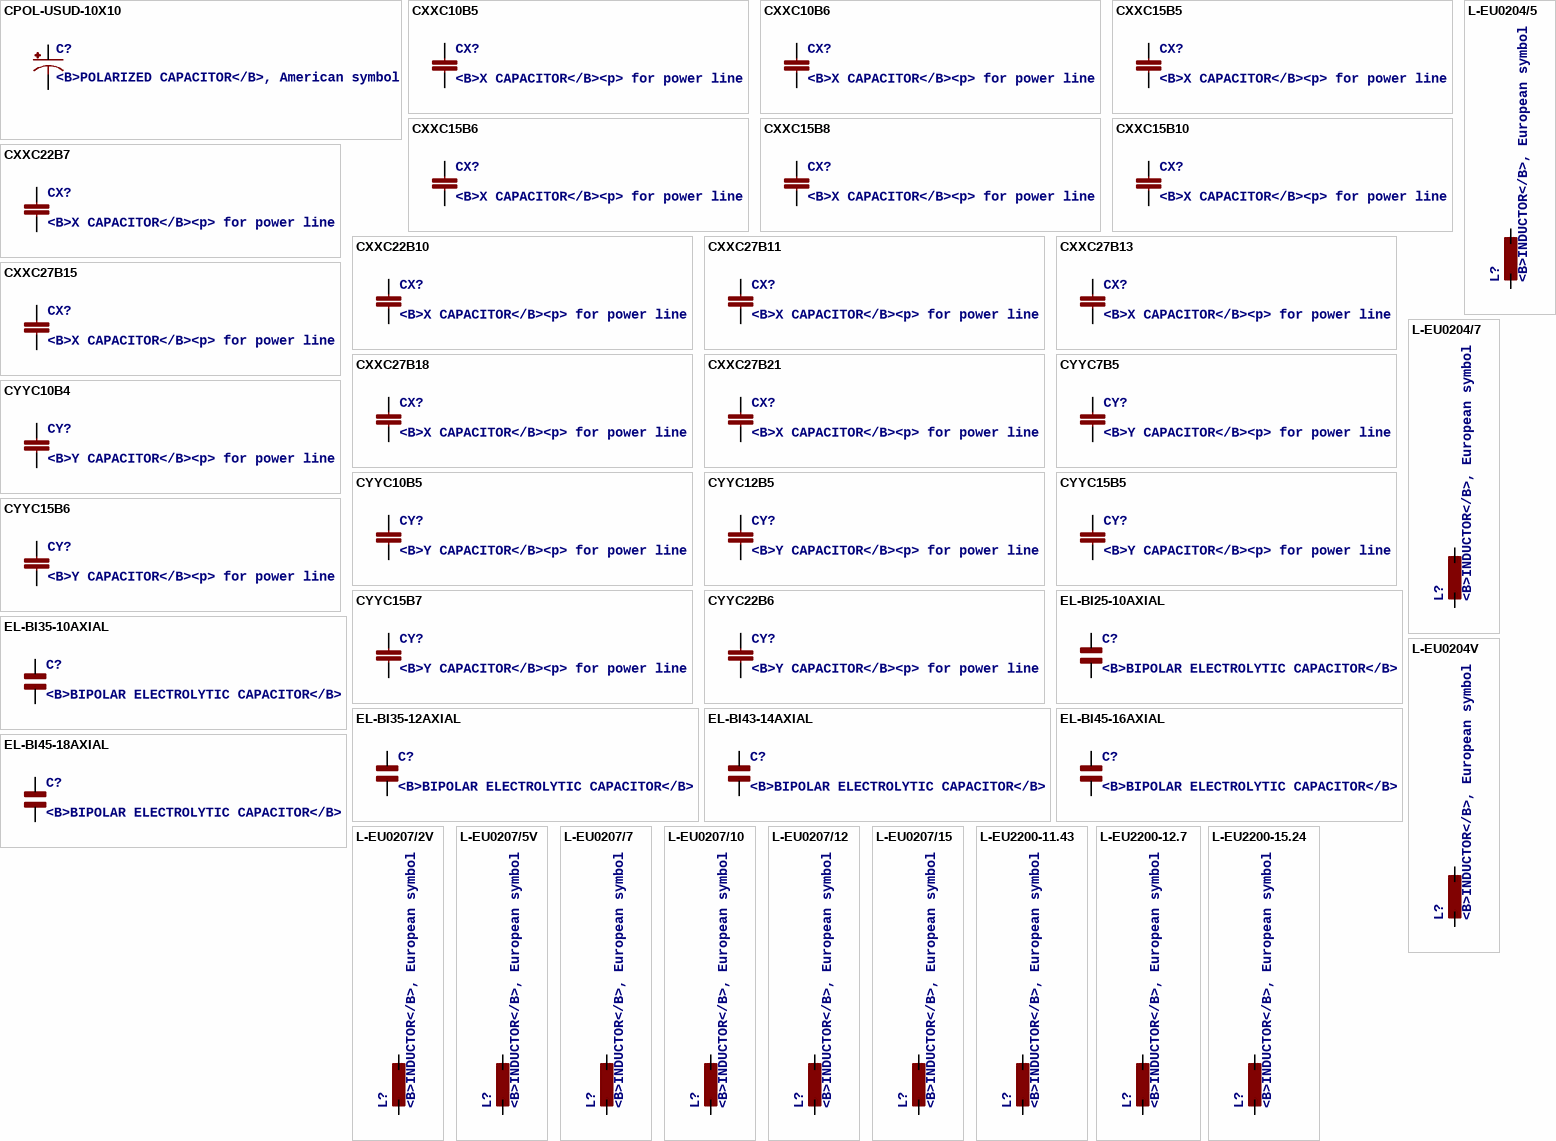
[diagram p14: symbols CPOL-USUD-10X10 to L-EU2200-15.24]

## CPOL-USUD-10X10
designator C?, comment <B>POLARIZED CAPACITOR</B>, American symbol
SPICEPREFIX: C
footprint UD-10X10_NICHICON
pins: +, -

## CXXC10B5
designator CX?, comment <B>X CAPACITOR</B><p> / for power line
SPICEPREFIX: C
footprint XC10B5
pins: 1, 2

## CXXC10B6
designator CX?, comment <B>X CAPACITOR</B><p> / for power line
SPICEPREFIX: C
footprint XC10B6
pins: 1, 2

## CXXC15B5
designator CX?, comment <B>X CAPACITOR</B><p> / for power line
SPICEPREFIX: C
footprint XC15B5
pins: 1, 2

## CXXC15B6
designator CX?, comment <B>X CAPACITOR</B><p> / for power line
SPICEPREFIX: C
footprint XC15B6
pins: 1, 2

## CXXC15B8
designator CX?, comment <B>X CAPACITOR</B><p> / for power line
SPICEPREFIX: C
footprint XC15B8
pins: 1, 2

## CXXC15B10
designator CX?, comment <B>X CAPACITOR</B><p> / for power line
SPICEPREFIX: C
footprint XC15B10
pins: 1, 2

## CXXC22B7
designator CX?, comment <B>X CAPACITOR</B><p> / for power line
SPICEPREFIX: C
footprint XC22B7
pins: 1, 2

## CXXC22B10
designator CX?, comment <B>X CAPACITOR</B><p> / for power line
SPICEPREFIX: C
footprint XC22B10
pins: 1, 2

## CXXC27B11
designator CX?, comment <B>X CAPACITOR</B><p> / for power line
SPICEPREFIX: C
footprint XC27B11
pins: 1, 2

## CXXC27B13
designator CX?, comment <B>X CAPACITOR</B><p> / for power line
SPICEPREFIX: C
footprint XC27B13
pins: 1, 2

## CXXC27B15
designator CX?, comment <B>X CAPACITOR</B><p> / for power line
SPICEPREFIX: C
footprint XC27B15
pins: 1, 2

## CXXC27B18
designator CX?, comment <B>X CAPACITOR</B><p> / for power line
SPICEPREFIX: C
footprint XC27B18
pins: 1, 2

## CXXC27B21
designator CX?, comment <B>X CAPACITOR</B><p> / for power line
SPICEPREFIX: C
footprint XC27B21
pins: 1, 2

## CYYC7B5
designator CY?, comment <B>Y CAPACITOR</B><p> / for power line
SPICEPREFIX: C
footprint YC7B5
pins: 1, 2

## CYYC10B4
designator CY?, comment <B>Y CAPACITOR</B><p> / for power line
SPICEPREFIX: C
footprint YC10B4
pins: 1, 2

## CYYC10B5
designator CY?, comment <B>Y CAPACITOR</B><p> / for power line
SPICEPREFIX: C
footprint YC10B5
pins: 1, 2

## CYYC12B5
designator CY?, comment <B>Y CAPACITOR</B><p> / for power line
SPICEPREFIX: C
footprint YC12B5
pins: 1, 2

## CYYC15B5
designator CY?, comment <B>Y CAPACITOR</B><p> / for power line
SPICEPREFIX: C
footprint YC15B5
pins: 1, 2

## CYYC15B6
designator CY?, comment <B>Y CAPACITOR</B><p> / for power line
SPICEPREFIX: C
footprint YC15B6
pins: 1, 2

## CYYC15B7
designator CY?, comment <B>Y CAPACITOR</B><p> / for power line
SPICEPREFIX: C
footprint YC15B7
pins: 1, 2

## CYYC22B6
designator CY?, comment <B>Y CAPACITOR</B><p> / for power line
SPICEPREFIX: C
footprint YC22B7
pins: 1, 2

## EL-BI25-10AXIAL
designator C?, comment <B>BIPOLAR ELECTROLYTIC CAPACITOR</B>
SPICEPREFIX: C
footprint EU25-10
pins: 1, 2

## EL-BI35-10AXIAL
designator C?, comment <B>BIPOLAR ELECTROLYTIC CAPACITOR</B>
SPICEPREFIX: C
footprint EU35-10
pins: 1, 2

## EL-BI35-12AXIAL
designator C?, comment <B>BIPOLAR ELECTROLYTIC CAPACITOR</B>
SPICEPREFIX: C
footprint EU35-12
pins: 1, 2

## EL-BI43-14AXIAL
designator C?, comment <B>BIPOLAR ELECTROLYTIC CAPACITOR</B>
SPICEPREFIX: C
footprint EU43-14
pins: 1, 2

## EL-BI45-16AXIAL
designator C?, comment <B>BIPOLAR ELECTROLYTIC CAPACITOR</B>
SPICEPREFIX: C
footprint EU45-16
pins: 1, 2

## EL-BI45-18AXIAL
designator C?, comment <B>BIPOLAR ELECTROLYTIC CAPACITOR</B>
SPICEPREFIX: C
footprint EU45-18
pins: 1, 2

## L-EU0204/5
designator L?, comment <B>INDUCTOR</B>, European symbol
SPICEPREFIX: L
footprint 0204/5
pins: 1, 2

## L-EU0204/7
designator L?, comment <B>INDUCTOR</B>, European symbol
SPICEPREFIX: L
footprint 0204/7
pins: 1, 2

## L-EU0204V
designator L?, comment <B>INDUCTOR</B>, European symbol
SPICEPREFIX: L
footprint 0204V
pins: 1, 2

## L-EU0207/2V
designator L?, comment <B>INDUCTOR</B>, European symbol
SPICEPREFIX: L
footprint 0207/2V
pins: 1, 2

## L-EU0207/5V
designator L?, comment <B>INDUCTOR</B>, European symbol
SPICEPREFIX: L
footprint 0207/5V
pins: 1, 2

## L-EU0207/7
designator L?, comment <B>INDUCTOR</B>, European symbol
SPICEPREFIX: L
footprint 0207/7
pins: 1, 2

## L-EU0207/10
designator L?, comment <B>INDUCTOR</B>, European symbol
SPICEPREFIX: L
footprint 0207/10
pins: 1, 2

## L-EU0207/12
designator L?, comment <B>INDUCTOR</B>, European symbol
SPICEPREFIX: L
footprint 0207/12
pins: 1, 2

## L-EU0207/15
designator L?, comment <B>INDUCTOR</B>, European symbol
SPICEPREFIX: L
footprint 0207/15
pins: 1, 2

## L-EU2200-11.43
designator L?, comment <B>INDUCTOR</B>, European symbol
SPICEPREFIX: L
footprint 2200-11.43
pins: 1, 2

## L-EU2200-12.7
designator L?, comment <B>INDUCTOR</B>, European symbol
SPICEPREFIX: L
footprint 2200-12.7
pins: 1, 2

## L-EU2200-15.24
designator L?, comment <B>INDUCTOR</B>, European symbol
SPICEPREFIX: L
footprint 2200-15.24
pins: 1, 2

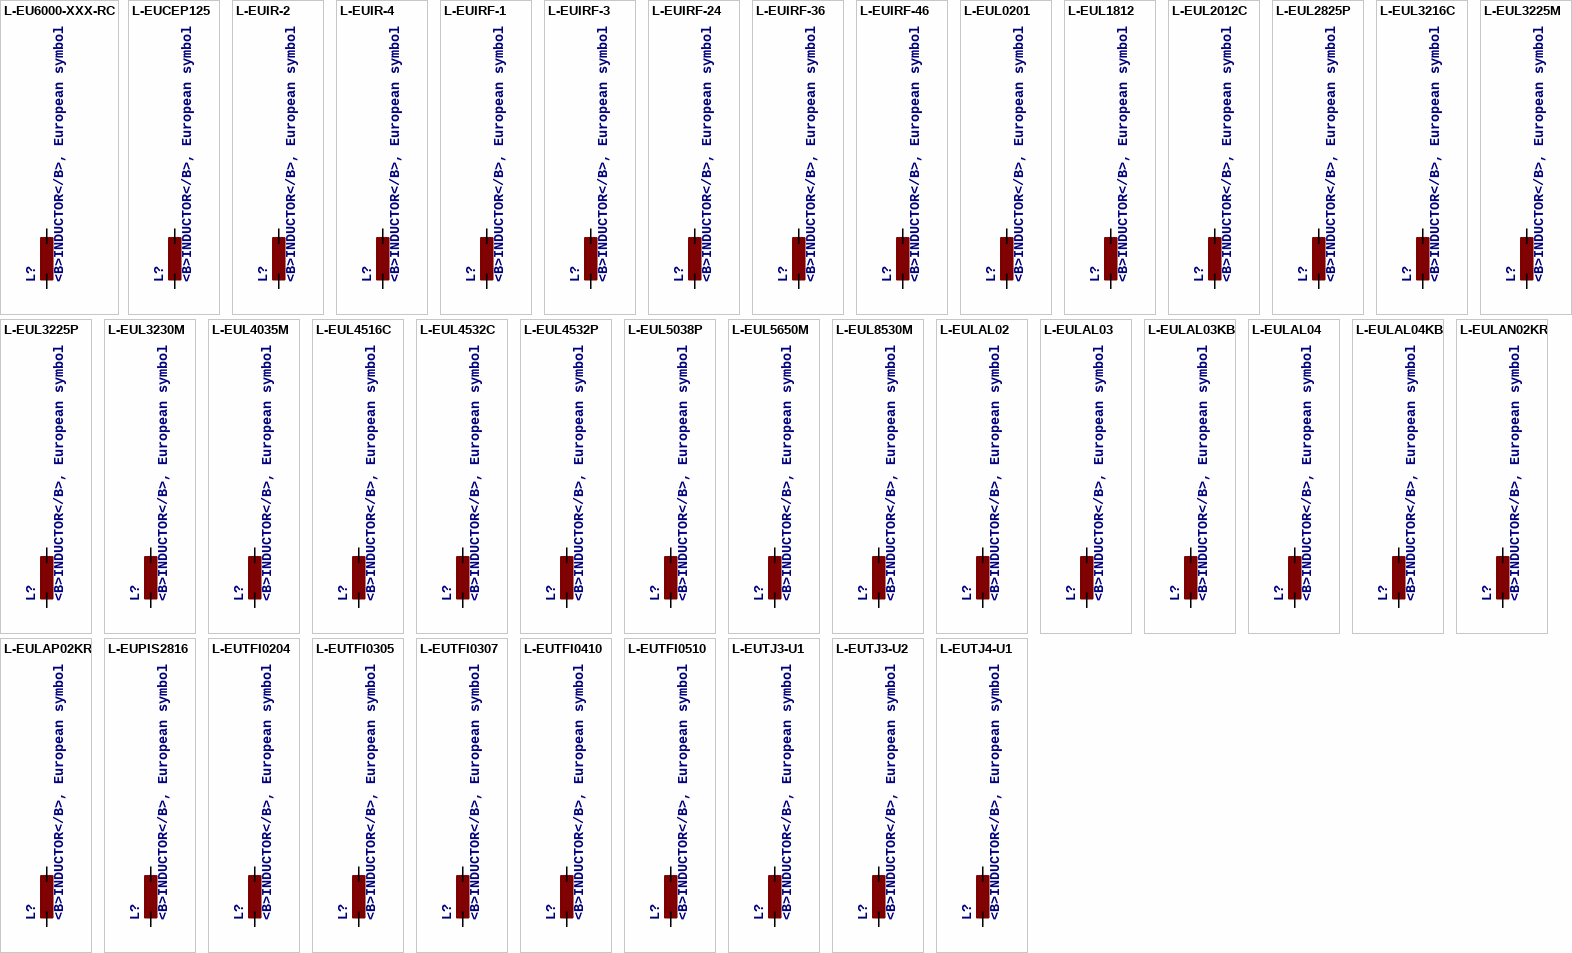
[diagram p15: symbols L-EU6000-XXX-RC to L-EUTJ4-U1]

## L-EU6000-XXX-RC
designator L?, comment <B>INDUCTOR</B>, European symbol
SPICEPREFIX: L
footprint 6000-XXXX-RC
pins: 1, 2

## L-EUCEP125
designator L?, comment <B>INDUCTOR</B>, European symbol
SPICEPREFIX: L
footprint CEP125
pins: 1, 2

## L-EUIR-2
designator L?, comment <B>INDUCTOR</B>, European symbol
SPICEPREFIX: L
footprint IR-2
pins: 1, 2

## L-EUIR-4
designator L?, comment <B>INDUCTOR</B>, European symbol
SPICEPREFIX: L
footprint IR-4
pins: 1, 2

## L-EUIRF-1
designator L?, comment <B>INDUCTOR</B>, European symbol
SPICEPREFIX: L
footprint IRF-1
pins: 1, 2

## L-EUIRF-3
designator L?, comment <B>INDUCTOR</B>, European symbol
SPICEPREFIX: L
footprint IRF-3
pins: 1, 2

## L-EUIRF-24
designator L?, comment <B>INDUCTOR</B>, European symbol
SPICEPREFIX: L
footprint IRF24
pins: 1, 2

## L-EUIRF-36
designator L?, comment <B>INDUCTOR</B>, European symbol
SPICEPREFIX: L
footprint IRF36
pins: 1, 2

## L-EUIRF-46
designator L?, comment <B>INDUCTOR</B>, European symbol
SPICEPREFIX: L
footprint IRF46
pins: 1, 2

## L-EUL0201
designator L?, comment <B>INDUCTOR</B>, European symbol
SPICEPREFIX: L
footprint L0201
pins: 1, 2

## L-EUL1812
designator L?, comment <B>INDUCTOR</B>, European symbol
SPICEPREFIX: L
footprint L1812
pins: 1, 2

## L-EUL2012C
designator L?, comment <B>INDUCTOR</B>, European symbol
SPICEPREFIX: L
footprint L2012C
pins: 1, 2

## L-EUL2825P
designator L?, comment <B>INDUCTOR</B>, European symbol
SPICEPREFIX: L
footprint L2825P
pins: 1, 2

## L-EUL3216C
designator L?, comment <B>INDUCTOR</B>, European symbol
SPICEPREFIX: L
footprint L3216C
pins: 1, 2

## L-EUL3225M
designator L?, comment <B>INDUCTOR</B>, European symbol
SPICEPREFIX: L
footprint L3225M
pins: 1, 2

## L-EUL3225P
designator L?, comment <B>INDUCTOR</B>, European symbol
SPICEPREFIX: L
footprint L3225P
pins: 1, 2

## L-EUL3230M
designator L?, comment <B>INDUCTOR</B>, European symbol
SPICEPREFIX: L
footprint L3230M
pins: 1, 2

## L-EUL4035M
designator L?, comment <B>INDUCTOR</B>, European symbol
SPICEPREFIX: L
footprint L4035M
pins: 1, 2

## L-EUL4516C
designator L?, comment <B>INDUCTOR</B>, European symbol
SPICEPREFIX: L
footprint L4516C
pins: 1, 2

## L-EUL4532C
designator L?, comment <B>INDUCTOR</B>, European symbol
SPICEPREFIX: L
footprint L4532M
pins: 1, 2

## L-EUL4532P
designator L?, comment <B>INDUCTOR</B>, European symbol
SPICEPREFIX: L
footprint L4532P
pins: 1, 2

## L-EUL5038P
designator L?, comment <B>INDUCTOR</B>, European symbol
SPICEPREFIX: L
footprint L5038P
pins: 1, 2

## L-EUL5650M
designator L?, comment <B>INDUCTOR</B>, European symbol
SPICEPREFIX: L
footprint L5650M
pins: 1, 2

## L-EUL8530M
designator L?, comment <B>INDUCTOR</B>, European symbol
SPICEPREFIX: L
footprint L8530M
pins: 1, 2

## L-EULAL02
designator L?, comment <B>INDUCTOR</B>, European symbol
SPICEPREFIX: L
footprint LAL02
pins: 1, 2

## L-EULAL03
designator L?, comment <B>INDUCTOR</B>, European symbol
SPICEPREFIX: L
footprint LAL03
pins: 1, 2

## L-EULAL03KB
designator L?, comment <B>INDUCTOR</B>, European symbol
SPICEPREFIX: L
footprint LAL03KH
pins: 1, 2

## L-EULAL04
designator L?, comment <B>INDUCTOR</B>, European symbol
SPICEPREFIX: L
footprint LAL04
pins: 1, 2

## L-EULAL04KB
designator L?, comment <B>INDUCTOR</B>, European symbol
SPICEPREFIX: L
footprint LAL04KB
pins: 1, 2

## L-EULAN02KR
designator L?, comment <B>INDUCTOR</B>, European symbol
SPICEPREFIX: L
footprint LAN02KR
pins: 1, 2

## L-EULAP02KR
designator L?, comment <B>INDUCTOR</B>, European symbol
SPICEPREFIX: L
footprint LAP02KR
pins: 1, 2

## L-EUPIS2816
designator L?, comment <B>INDUCTOR</B>, European symbol
SPICEPREFIX: L
footprint PIS2816
pins: 1, 2

## L-EUTFI0204
designator L?, comment <B>INDUCTOR</B>, European symbol
SPICEPREFIX: L
footprint TFI0204
pins: 1, 2

## L-EUTFI0305
designator L?, comment <B>INDUCTOR</B>, European symbol
SPICEPREFIX: L
footprint TFI0305
pins: 1, 2

## L-EUTFI0307
designator L?, comment <B>INDUCTOR</B>, European symbol
SPICEPREFIX: L
footprint TFI0307
pins: 1, 2

## L-EUTFI0410
designator L?, comment <B>INDUCTOR</B>, European symbol
SPICEPREFIX: L
footprint TFI0410
pins: 1, 2

## L-EUTFI0510
designator L?, comment <B>INDUCTOR</B>, European symbol
SPICEPREFIX: L
footprint TFI0510
pins: 1, 2

## L-EUTJ3-U1
designator L?, comment <B>INDUCTOR</B>, European symbol
SPICEPREFIX: L
footprint TJ3-U1
pins: 1, 2

## L-EUTJ3-U2
designator L?, comment <B>INDUCTOR</B>, European symbol
SPICEPREFIX: L
footprint TJ3-U2
pins: 1, 2

## L-EUTJ4-U1
designator L?, comment <B>INDUCTOR</B>, European symbol
SPICEPREFIX: L
footprint TJ4-U1
pins: 1, 2

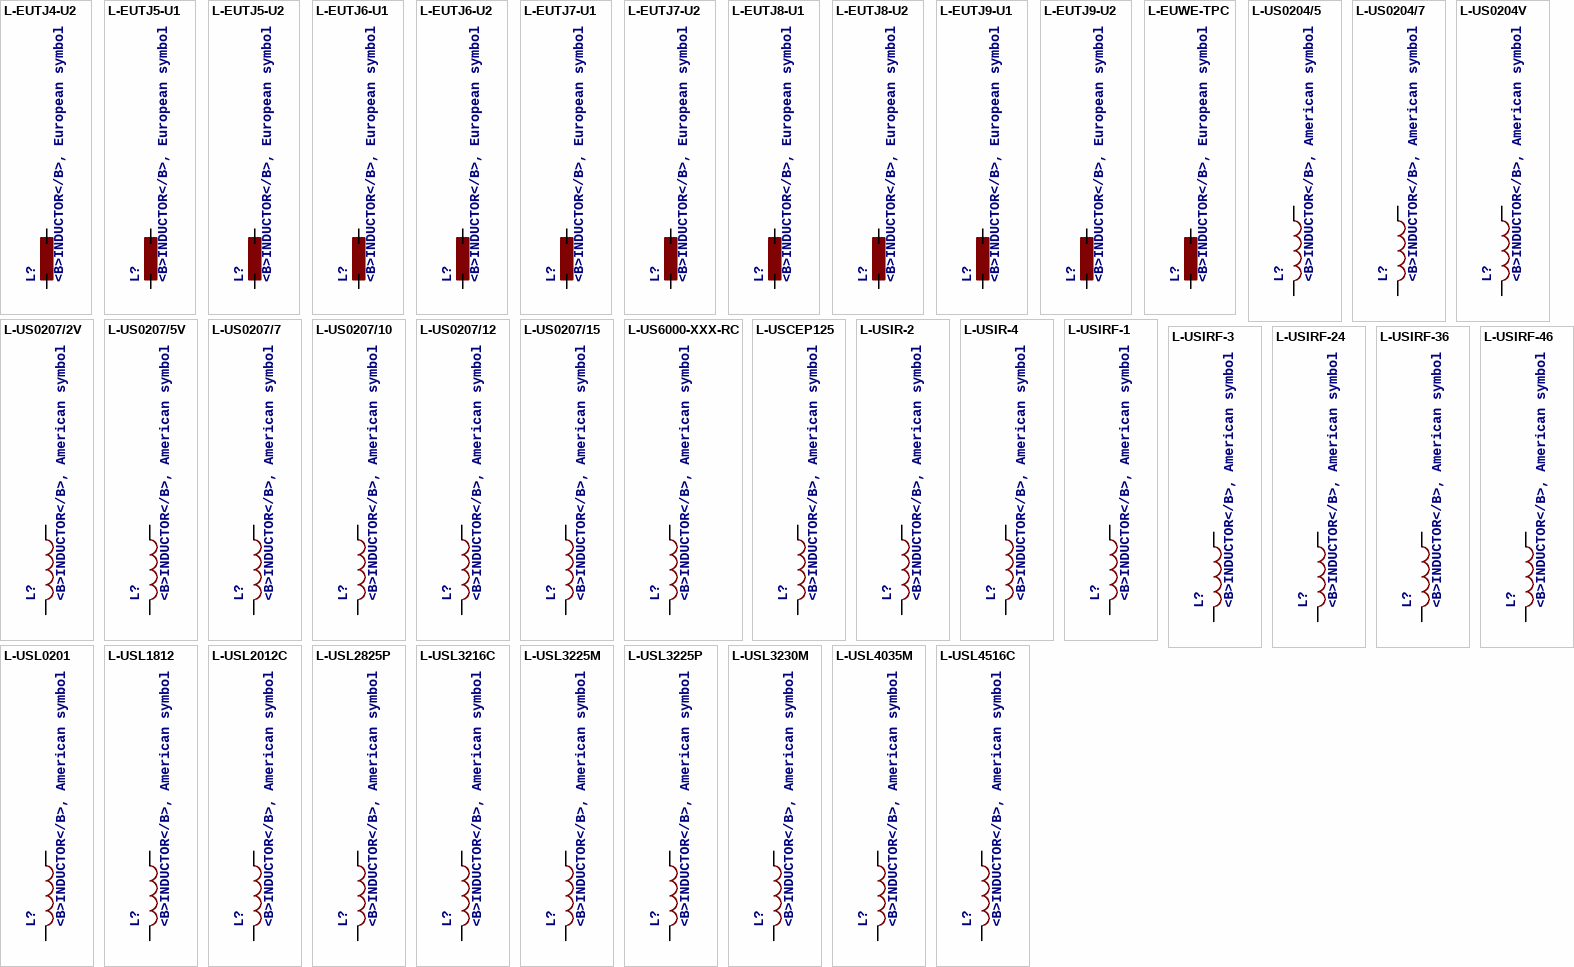
[diagram p16: symbols L-EUTJ4-U2 to L-USL4516C]

## L-EUTJ4-U2
designator L?, comment <B>INDUCTOR</B>, European symbol
SPICEPREFIX: L
footprint TJ4-U2
pins: 1, 2

## L-EUTJ5-U1
designator L?, comment <B>INDUCTOR</B>, European symbol
SPICEPREFIX: L
footprint TJ5-U1
pins: 1, 2

## L-EUTJ5-U2
designator L?, comment <B>INDUCTOR</B>, European symbol
SPICEPREFIX: L
footprint TJ5-U2
pins: 1, 2

## L-EUTJ6-U1
designator L?, comment <B>INDUCTOR</B>, European symbol
SPICEPREFIX: L
footprint TJ6-U1
pins: 1, 2

## L-EUTJ6-U2
designator L?, comment <B>INDUCTOR</B>, European symbol
SPICEPREFIX: L
footprint TJ6-U2
pins: 1, 2

## L-EUTJ7-U1
designator L?, comment <B>INDUCTOR</B>, European symbol
SPICEPREFIX: L
footprint TJ7-U1
pins: 1, 2

## L-EUTJ7-U2
designator L?, comment <B>INDUCTOR</B>, European symbol
SPICEPREFIX: L
footprint TJ7-U2
pins: 1, 2

## L-EUTJ8-U1
designator L?, comment <B>INDUCTOR</B>, European symbol
SPICEPREFIX: L
footprint TJ8-U1
pins: 1, 2

## L-EUTJ8-U2
designator L?, comment <B>INDUCTOR</B>, European symbol
SPICEPREFIX: L
footprint TJ8-U2
pins: 1, 2

## L-EUTJ9-U1
designator L?, comment <B>INDUCTOR</B>, European symbol
SPICEPREFIX: L
footprint TJ9-U1
pins: 1, 2

## L-EUTJ9-U2
designator L?, comment <B>INDUCTOR</B>, European symbol
SPICEPREFIX: L
footprint TJ9-U2
pins: 1, 2

## L-EUWE-TPC
designator L?, comment <B>INDUCTOR</B>, European symbol
SPICEPREFIX: L
footprint POWER-CHOKE_WE-TPC
pins: 1, 2

## L-US0204/5
designator L?, comment <B>INDUCTOR</B>, American symbol
SPICEPREFIX: L
footprint 0204/5
pins: 1, 2

## L-US0204/7
designator L?, comment <B>INDUCTOR</B>, American symbol
SPICEPREFIX: L
footprint 0204/7
pins: 1, 2

## L-US0204V
designator L?, comment <B>INDUCTOR</B>, American symbol
SPICEPREFIX: L
footprint 0204V
pins: 1, 2

## L-US0207/2V
designator L?, comment <B>INDUCTOR</B>, American symbol
SPICEPREFIX: L
footprint 0207/2V
pins: 1, 2

## L-US0207/5V
designator L?, comment <B>INDUCTOR</B>, American symbol
SPICEPREFIX: L
footprint 0207/5V
pins: 1, 2

## L-US0207/7
designator L?, comment <B>INDUCTOR</B>, American symbol
SPICEPREFIX: L
footprint 0207/7
pins: 1, 2

## L-US0207/10
designator L?, comment <B>INDUCTOR</B>, American symbol
SPICEPREFIX: L
footprint 0207/10
pins: 1, 2

## L-US0207/12
designator L?, comment <B>INDUCTOR</B>, American symbol
SPICEPREFIX: L
footprint 0207/12
pins: 1, 2

## L-US0207/15
designator L?, comment <B>INDUCTOR</B>, American symbol
SPICEPREFIX: L
footprint 0207/15
pins: 1, 2

## L-US6000-XXX-RC
designator L?, comment <B>INDUCTOR</B>, American symbol
SPICEPREFIX: L
footprint 6000-XXXX-RC
pins: 1, 2

## L-USCEP125
designator L?, comment <B>INDUCTOR</B>, American symbol
SPICEPREFIX: L
footprint CEP125
pins: 1, 2

## L-USIR-2
designator L?, comment <B>INDUCTOR</B>, American symbol
SPICEPREFIX: L
footprint IR-2
pins: 1, 2

## L-USIR-4
designator L?, comment <B>INDUCTOR</B>, American symbol
SPICEPREFIX: L
footprint IR-4
pins: 1, 2

## L-USIRF-1
designator L?, comment <B>INDUCTOR</B>, American symbol
SPICEPREFIX: L
footprint IRF-1
pins: 1, 2

## L-USIRF-3
designator L?, comment <B>INDUCTOR</B>, American symbol
SPICEPREFIX: L
footprint IRF-3
pins: 1, 2

## L-USIRF-24
designator L?, comment <B>INDUCTOR</B>, American symbol
SPICEPREFIX: L
footprint IRF24
pins: 1, 2

## L-USIRF-36
designator L?, comment <B>INDUCTOR</B>, American symbol
SPICEPREFIX: L
footprint IRF36
pins: 1, 2

## L-USIRF-46
designator L?, comment <B>INDUCTOR</B>, American symbol
SPICEPREFIX: L
footprint IRF46
pins: 1, 2

## L-USL0201
designator L?, comment <B>INDUCTOR</B>, American symbol
SPICEPREFIX: L
footprint L0201
pins: 1, 2

## L-USL1812
designator L?, comment <B>INDUCTOR</B>, American symbol
SPICEPREFIX: L
footprint L1812
pins: 1, 2

## L-USL2012C
designator L?, comment <B>INDUCTOR</B>, American symbol
SPICEPREFIX: L
footprint L2012C
pins: 1, 2

## L-USL2825P
designator L?, comment <B>INDUCTOR</B>, American symbol
SPICEPREFIX: L
footprint L2825P
pins: 1, 2

## L-USL3216C
designator L?, comment <B>INDUCTOR</B>, American symbol
SPICEPREFIX: L
footprint L3216C
pins: 1, 2

## L-USL3225M
designator L?, comment <B>INDUCTOR</B>, American symbol
SPICEPREFIX: L
footprint L3225M
pins: 1, 2

## L-USL3225P
designator L?, comment <B>INDUCTOR</B>, American symbol
SPICEPREFIX: L
footprint L3225P
pins: 1, 2

## L-USL3230M
designator L?, comment <B>INDUCTOR</B>, American symbol
SPICEPREFIX: L
footprint L3230M
pins: 1, 2

## L-USL4035M
designator L?, comment <B>INDUCTOR</B>, American symbol
SPICEPREFIX: L
footprint L4035M
pins: 1, 2

## L-USL4516C
designator L?, comment <B>INDUCTOR</B>, American symbol
SPICEPREFIX: L
footprint L4516C
pins: 1, 2

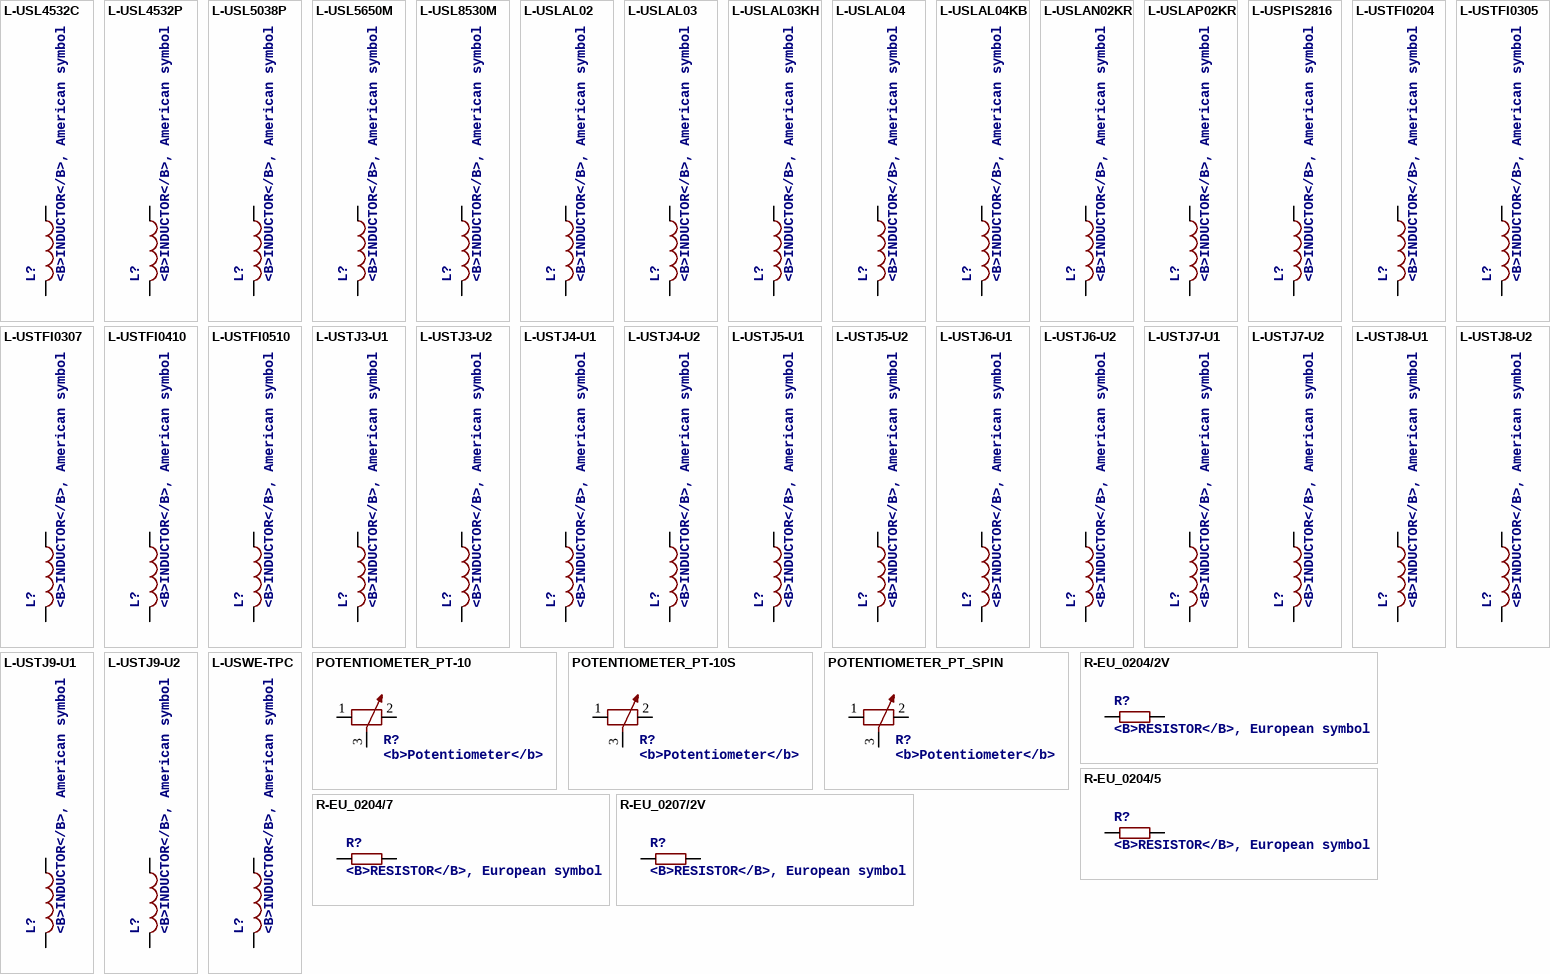
[diagram p17: symbols L-USL4532C to R-EU_0207/2V]

## L-USL4532C
designator L?, comment <B>INDUCTOR</B>, American symbol
SPICEPREFIX: L
footprint L4532M
pins: 1, 2

## L-USL4532P
designator L?, comment <B>INDUCTOR</B>, American symbol
SPICEPREFIX: L
footprint L4532P
pins: 1, 2

## L-USL5038P
designator L?, comment <B>INDUCTOR</B>, American symbol
SPICEPREFIX: L
footprint L5038P
pins: 1, 2

## L-USL5650M
designator L?, comment <B>INDUCTOR</B>, American symbol
SPICEPREFIX: L
footprint L5650M
pins: 1, 2

## L-USL8530M
designator L?, comment <B>INDUCTOR</B>, American symbol
SPICEPREFIX: L
footprint L8530M
pins: 1, 2

## L-USLAL02
designator L?, comment <B>INDUCTOR</B>, American symbol
SPICEPREFIX: L
footprint LAL02
pins: 1, 2

## L-USLAL03
designator L?, comment <B>INDUCTOR</B>, American symbol
SPICEPREFIX: L
footprint LAL03
pins: 1, 2

## L-USLAL03KH
designator L?, comment <B>INDUCTOR</B>, American symbol
SPICEPREFIX: L
footprint LAL03KH
pins: 1, 2

## L-USLAL04
designator L?, comment <B>INDUCTOR</B>, American symbol
SPICEPREFIX: L
footprint LAL04
pins: 1, 2

## L-USLAL04KB
designator L?, comment <B>INDUCTOR</B>, American symbol
SPICEPREFIX: L
footprint LAL04KB
pins: 1, 2

## L-USLAN02KR
designator L?, comment <B>INDUCTOR</B>, American symbol
SPICEPREFIX: L
footprint LAN02KR
pins: 1, 2

## L-USLAP02KR
designator L?, comment <B>INDUCTOR</B>, American symbol
SPICEPREFIX: L
footprint LAP02KR
pins: 1, 2

## L-USPIS2816
designator L?, comment <B>INDUCTOR</B>, American symbol
SPICEPREFIX: L
footprint PIS2816
pins: 1, 2

## L-USTFI0204
designator L?, comment <B>INDUCTOR</B>, American symbol
SPICEPREFIX: L
footprint TFI0204
pins: 1, 2

## L-USTFI0305
designator L?, comment <B>INDUCTOR</B>, American symbol
SPICEPREFIX: L
footprint TFI0305
pins: 1, 2

## L-USTFI0307
designator L?, comment <B>INDUCTOR</B>, American symbol
SPICEPREFIX: L
footprint TFI0307
pins: 1, 2

## L-USTFI0410
designator L?, comment <B>INDUCTOR</B>, American symbol
SPICEPREFIX: L
footprint TFI0410
pins: 1, 2

## L-USTFI0510
designator L?, comment <B>INDUCTOR</B>, American symbol
SPICEPREFIX: L
footprint TFI0510
pins: 1, 2

## L-USTJ3-U1
designator L?, comment <B>INDUCTOR</B>, American symbol
SPICEPREFIX: L
footprint TJ3-U1
pins: 1, 2

## L-USTJ3-U2
designator L?, comment <B>INDUCTOR</B>, American symbol
SPICEPREFIX: L
footprint TJ3-U2
pins: 1, 2

## L-USTJ4-U1
designator L?, comment <B>INDUCTOR</B>, American symbol
SPICEPREFIX: L
footprint TJ4-U1
pins: 1, 2

## L-USTJ4-U2
designator L?, comment <B>INDUCTOR</B>, American symbol
SPICEPREFIX: L
footprint TJ4-U2
pins: 1, 2

## L-USTJ5-U1
designator L?, comment <B>INDUCTOR</B>, American symbol
SPICEPREFIX: L
footprint TJ5-U1
pins: 1, 2

## L-USTJ5-U2
designator L?, comment <B>INDUCTOR</B>, American symbol
SPICEPREFIX: L
footprint TJ5-U2
pins: 1, 2

## L-USTJ6-U1
designator L?, comment <B>INDUCTOR</B>, American symbol
SPICEPREFIX: L
footprint TJ6-U1
pins: 1, 2

## L-USTJ6-U2
designator L?, comment <B>INDUCTOR</B>, American symbol
SPICEPREFIX: L
footprint TJ6-U2
pins: 1, 2

## L-USTJ7-U1
designator L?, comment <B>INDUCTOR</B>, American symbol
SPICEPREFIX: L
footprint TJ7-U1
pins: 1, 2

## L-USTJ7-U2
designator L?, comment <B>INDUCTOR</B>, American symbol
SPICEPREFIX: L
footprint TJ7-U2
pins: 1, 2

## L-USTJ8-U1
designator L?, comment <B>INDUCTOR</B>, American symbol
SPICEPREFIX: L
footprint TJ8-U1
pins: 1, 2

## L-USTJ8-U2
designator L?, comment <B>INDUCTOR</B>, American symbol
SPICEPREFIX: L
footprint TJ8-U2
pins: 1, 2

## L-USTJ9-U1
designator L?, comment <B>INDUCTOR</B>, American symbol
SPICEPREFIX: L
footprint TJ9-U1
pins: 1, 2

## L-USTJ9-U2
designator L?, comment <B>INDUCTOR</B>, American symbol
SPICEPREFIX: L
footprint TJ9-U2
pins: 1, 2

## L-USWE-TPC
designator L?, comment <B>INDUCTOR</B>, American symbol
SPICEPREFIX: L
footprint POWER-CHOKE_WE-TPC
pins: 1, 2

## POTENTIOMETER_PT-10
designator R?, comment <b>Potentiometer</b>
SPICEMODEL: POT; SPICEPREFIX: X
footprint PT-10
pins: 1, 2, 3

## POTENTIOMETER_PT-10S
designator R?, comment <b>Potentiometer</b>
SPICEMODEL: POT; SPICEPREFIX: X
footprint PT-10S
pins: 1, 2, 3

## POTENTIOMETER_PT_SPIN
designator R?, comment <b>Potentiometer</b>
SPICEMODEL: POT; SPICEPREFIX: X
footprint PT-SPIN
pins: 1, 2, 3

## R-EU_0204/2V
designator R?, comment <B>RESISTOR</B>, European symbol
SPICEPREFIX: R
footprint 0204V
pins: 1, 2

## R-EU_0204/5
designator R?, comment <B>RESISTOR</B>, European symbol
SPICEPREFIX: R
footprint 0204/5
pins: 1, 2

## R-EU_0204/7
designator R?, comment <B>RESISTOR</B>, European symbol
SPICEPREFIX: R
footprint 0204/7
pins: 1, 2

## R-EU_0207/2V
designator R?, comment <B>RESISTOR</B>, European symbol
SPICEPREFIX: R
footprint 0207/2V
pins: 1, 2

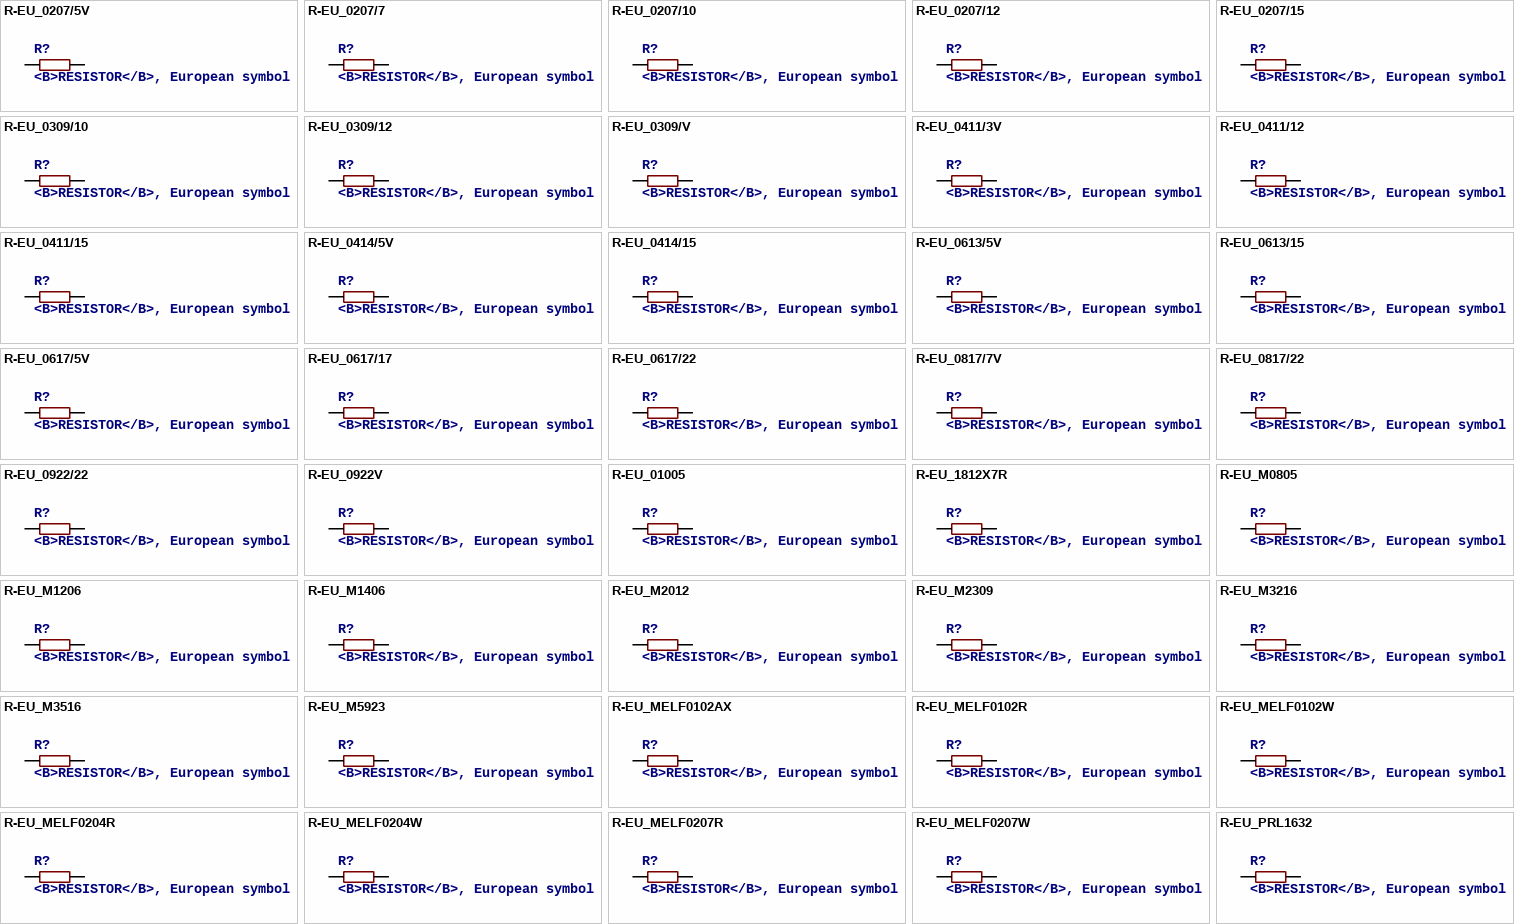
[diagram p18: symbols R-EU_0207/5V to R-EU_PRL1632]

## R-EU_0207/5V
designator R?, comment <B>RESISTOR</B>, European symbol
SPICEPREFIX: R
footprint 0207/5V
pins: 1, 2

## R-EU_0207/7
designator R?, comment <B>RESISTOR</B>, European symbol
SPICEPREFIX: R
footprint 0207/7
pins: 1, 2

## R-EU_0207/10
designator R?, comment <B>RESISTOR</B>, European symbol
SPICEPREFIX: R
footprint 0207/10
pins: 1, 2

## R-EU_0207/12
designator R?, comment <B>RESISTOR</B>, European symbol
SPICEPREFIX: R
footprint 0207/12
pins: 1, 2

## R-EU_0207/15
designator R?, comment <B>RESISTOR</B>, European symbol
SPICEPREFIX: R
footprint 0207/15
pins: 1, 2

## R-EU_0309/10
designator R?, comment <B>RESISTOR</B>, European symbol
SPICEPREFIX: R
footprint 0309/10
pins: 1, 2

## R-EU_0309/12
designator R?, comment <B>RESISTOR</B>, European symbol
SPICEPREFIX: R
footprint 0309/12
pins: 1, 2

## R-EU_0309/V
designator R?, comment <B>RESISTOR</B>, European symbol
SPICEPREFIX: R
footprint 0309V
pins: 1, 2

## R-EU_0411/3V
designator R?, comment <B>RESISTOR</B>, European symbol
SPICEPREFIX: R
footprint 0411V
pins: 1, 2

## R-EU_0411/12
designator R?, comment <B>RESISTOR</B>, European symbol
SPICEPREFIX: R
footprint 0411/12
pins: 1, 2

## R-EU_0411/15
designator R?, comment <B>RESISTOR</B>, European symbol
SPICEPREFIX: R
footprint 0411/15
pins: 1, 2

## R-EU_0414/5V
designator R?, comment <B>RESISTOR</B>, European symbol
SPICEPREFIX: R
footprint 0414V
pins: 1, 2

## R-EU_0414/15
designator R?, comment <B>RESISTOR</B>, European symbol
SPICEPREFIX: R
footprint 0414/15
pins: 1, 2

## R-EU_0613/5V
designator R?, comment <B>RESISTOR</B>, European symbol
SPICEPREFIX: R
footprint P0613V
pins: 1, 2

## R-EU_0613/15
designator R?, comment <B>RESISTOR</B>, European symbol
SPICEPREFIX: R
footprint P0613/15
pins: 1, 2

## R-EU_0617/5V
designator R?, comment <B>RESISTOR</B>, European symbol
SPICEPREFIX: R
footprint 0617V
pins: 1, 2

## R-EU_0617/17
designator R?, comment <B>RESISTOR</B>, European symbol
SPICEPREFIX: R
footprint 0617/17
pins: 1, 2

## R-EU_0617/22
designator R?, comment <B>RESISTOR</B>, European symbol
SPICEPREFIX: R
footprint 0617/22
pins: 1, 2

## R-EU_0817/7V
designator R?, comment <B>RESISTOR</B>, European symbol
SPICEPREFIX: R
footprint P0817V
pins: 1, 2

## R-EU_0817/22
designator R?, comment <B>RESISTOR</B>, European symbol
SPICEPREFIX: R
footprint P0817/22
pins: 1, 2

## R-EU_0922/22
designator R?, comment <B>RESISTOR</B>, European symbol
SPICEPREFIX: R
footprint 0922/22
pins: 1, 2

## R-EU_0922V
designator R?, comment <B>RESISTOR</B>, European symbol
SPICEPREFIX: R
footprint 0922V
pins: 1, 2

## R-EU_01005
designator R?, comment <B>RESISTOR</B>, European symbol
SPICEPREFIX: R
footprint R01005
pins: 1, 2

## R-EU_1812X7R
designator R?, comment <B>RESISTOR</B>, European symbol
SPICEPREFIX: R
footprint 1812X7R
pins: 1, 2

## R-EU_M0805
designator R?, comment <B>RESISTOR</B>, European symbol
SPICEPREFIX: R
footprint M0805
pins: 1, 2

## R-EU_M1206
designator R?, comment <B>RESISTOR</B>, European symbol
SPICEPREFIX: R
footprint M1206
pins: 1, 2

## R-EU_M1406
designator R?, comment <B>RESISTOR</B>, European symbol
SPICEPREFIX: R
footprint M1406
pins: 1, 2

## R-EU_M2012
designator R?, comment <B>RESISTOR</B>, European symbol
SPICEPREFIX: R
footprint M2012
pins: 1, 2

## R-EU_M2309
designator R?, comment <B>RESISTOR</B>, European symbol
SPICEPREFIX: R
footprint M2309
pins: 1, 2

## R-EU_M3216
designator R?, comment <B>RESISTOR</B>, European symbol
SPICEPREFIX: R
footprint M3216
pins: 1, 2

## R-EU_M3516
designator R?, comment <B>RESISTOR</B>, European symbol
SPICEPREFIX: R
footprint M3516
pins: 1, 2

## R-EU_M5923
designator R?, comment <B>RESISTOR</B>, European symbol
SPICEPREFIX: R
footprint M5923
pins: 1, 2

## R-EU_MELF0102AX
designator R?, comment <B>RESISTOR</B>, European symbol
SPICEPREFIX: R
footprint MINI_MELF-0102AX
pins: 1, 2

## R-EU_MELF0102R
designator R?, comment <B>RESISTOR</B>, European symbol
SPICEPREFIX: R
footprint MINI_MELF-0102R
pins: 1, 2

## R-EU_MELF0102W
designator R?, comment <B>RESISTOR</B>, European symbol
SPICEPREFIX: R
footprint MINI_MELF-0102W
pins: 1, 2

## R-EU_MELF0204R
designator R?, comment <B>RESISTOR</B>, European symbol
SPICEPREFIX: R
footprint MINI_MELF-0204R
pins: 1, 2

## R-EU_MELF0204W
designator R?, comment <B>RESISTOR</B>, European symbol
SPICEPREFIX: R
footprint MINI_MELF-0204W
pins: 1, 2

## R-EU_MELF0207R
designator R?, comment <B>RESISTOR</B>, European symbol
SPICEPREFIX: R
footprint MINI_MELF-0207R
pins: 1, 2

## R-EU_MELF0207W
designator R?, comment <B>RESISTOR</B>, European symbol
SPICEPREFIX: R
footprint MINI_MELF-0207W
pins: 1, 2

## R-EU_PRL1632
designator R?, comment <B>RESISTOR</B>, European symbol
SPICEPREFIX: R
footprint PRL1632
pins: 1, 2

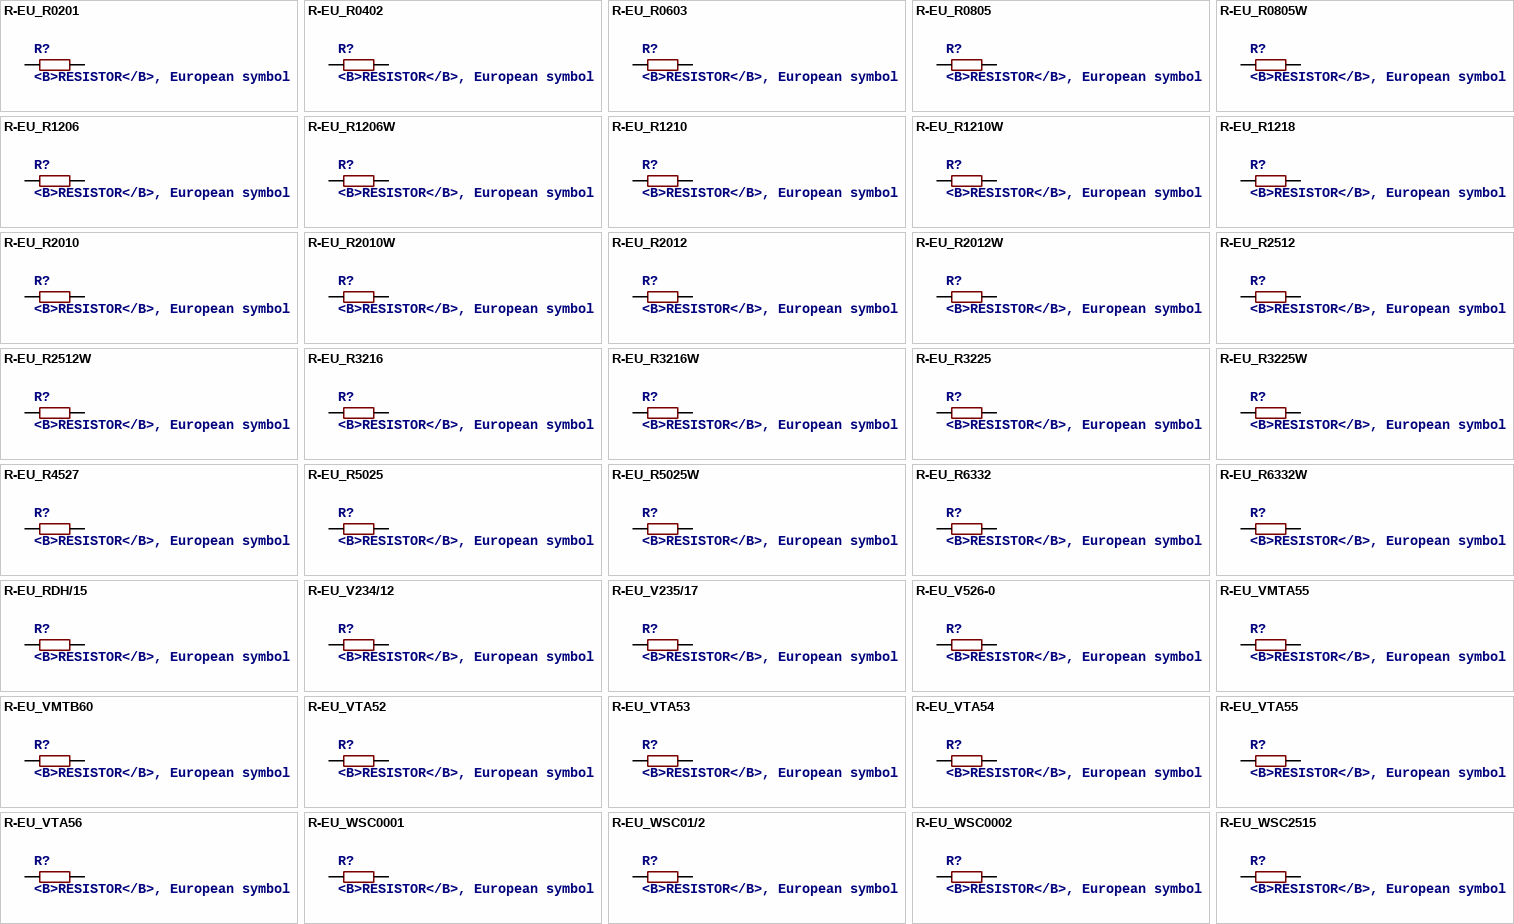
[diagram p19: symbols R-EU_R0201 to R-EU_WSC2515]

## R-EU_R0201
designator R?, comment <B>RESISTOR</B>, European symbol
SPICEPREFIX: R
footprint R0201
pins: 1, 2

## R-EU_R0402
designator R?, comment <B>RESISTOR</B>, European symbol
SPICEPREFIX: R
footprint R0402
pins: 1, 2

## R-EU_R0603
designator R?, comment <B>RESISTOR</B>, European symbol
SPICEPREFIX: R
footprint R0603
pins: 1, 2

## R-EU_R0805
designator R?, comment <B>RESISTOR</B>, European symbol
SPICEPREFIX: R
footprint R0805
pins: 1, 2

## R-EU_R0805W
designator R?, comment <B>RESISTOR</B>, European symbol
SPICEPREFIX: R
footprint R0805W
pins: 1, 2

## R-EU_R1206
designator R?, comment <B>RESISTOR</B>, European symbol
SPICEPREFIX: R
footprint R1206
pins: 1, 2

## R-EU_R1206W
designator R?, comment <B>RESISTOR</B>, European symbol
SPICEPREFIX: R
footprint R1206W
pins: 1, 2

## R-EU_R1210
designator R?, comment <B>RESISTOR</B>, European symbol
SPICEPREFIX: R
footprint R1210
pins: 1, 2

## R-EU_R1210W
designator R?, comment <B>RESISTOR</B>, European symbol
SPICEPREFIX: R
footprint R1210W
pins: 1, 2

## R-EU_R1218
designator R?, comment <B>RESISTOR</B>, European symbol
SPICEPREFIX: R
footprint R1218
pins: 1, 2

## R-EU_R2010
designator R?, comment <B>RESISTOR</B>, European symbol
SPICEPREFIX: R
footprint R2010
pins: 1, 2

## R-EU_R2010W
designator R?, comment <B>RESISTOR</B>, European symbol
SPICEPREFIX: R
footprint R2010W
pins: 1, 2

## R-EU_R2012
designator R?, comment <B>RESISTOR</B>, European symbol
SPICEPREFIX: R
footprint R2012
pins: 1, 2

## R-EU_R2012W
designator R?, comment <B>RESISTOR</B>, European symbol
SPICEPREFIX: R
footprint R2012W
pins: 1, 2

## R-EU_R2512
designator R?, comment <B>RESISTOR</B>, European symbol
SPICEPREFIX: R
footprint R2512
pins: 1, 2

## R-EU_R2512W
designator R?, comment <B>RESISTOR</B>, European symbol
SPICEPREFIX: R
footprint R2512W
pins: 1, 2

## R-EU_R3216
designator R?, comment <B>RESISTOR</B>, European symbol
SPICEPREFIX: R
footprint R3216
pins: 1, 2

## R-EU_R3216W
designator R?, comment <B>RESISTOR</B>, European symbol
SPICEPREFIX: R
footprint R3216W
pins: 1, 2

## R-EU_R3225
designator R?, comment <B>RESISTOR</B>, European symbol
SPICEPREFIX: R
footprint R3225
pins: 1, 2

## R-EU_R3225W
designator R?, comment <B>RESISTOR</B>, European symbol
SPICEPREFIX: R
footprint R3225W
pins: 1, 2

## R-EU_R4527
designator R?, comment <B>RESISTOR</B>, European symbol
SPICEPREFIX: R
footprint R4527
pins: 1, 2

## R-EU_R5025
designator R?, comment <B>RESISTOR</B>, European symbol
SPICEPREFIX: R
footprint R5025
pins: 1, 2

## R-EU_R5025W
designator R?, comment <B>RESISTOR</B>, European symbol
SPICEPREFIX: R
footprint R5025W
pins: 1, 2

## R-EU_R6332
designator R?, comment <B>RESISTOR</B>, European symbol
SPICEPREFIX: R
footprint R6332
pins: 1, 2

## R-EU_R6332W
designator R?, comment <B>RESISTOR</B>, European symbol
SPICEPREFIX: R
footprint R6332W
pins: 1, 2

## R-EU_RDH/15
designator R?, comment <B>RESISTOR</B>, European symbol
SPICEPREFIX: R
footprint RDH/15
pins: 1, 2

## R-EU_V234/12
designator R?, comment <B>RESISTOR</B>, European symbol
SPICEPREFIX: R
footprint V234/12
pins: 1, 2

## R-EU_V235/17
designator R?, comment <B>RESISTOR</B>, European symbol
SPICEPREFIX: R
footprint V235/17
pins: 1, 2

## R-EU_V526-0
designator R?, comment <B>RESISTOR</B>, European symbol
SPICEPREFIX: R
footprint V526-0
pins: 1, 2

## R-EU_VMTA55
designator R?, comment <B>RESISTOR</B>, European symbol
SPICEPREFIX: R
footprint VMTA55
pins: 1, 2

## R-EU_VMTB60
designator R?, comment <B>RESISTOR</B>, European symbol
SPICEPREFIX: R
footprint VMTB60
pins: 1, 2

## R-EU_VTA52
designator R?, comment <B>RESISTOR</B>, European symbol
SPICEPREFIX: R
footprint VTA52
pins: 1, 2

## R-EU_VTA53
designator R?, comment <B>RESISTOR</B>, European symbol
SPICEPREFIX: R
footprint VTA53
pins: 1, 2

## R-EU_VTA54
designator R?, comment <B>RESISTOR</B>, European symbol
SPICEPREFIX: R
footprint VTA54
pins: 1, 2

## R-EU_VTA55
designator R?, comment <B>RESISTOR</B>, European symbol
SPICEPREFIX: R
footprint VTA55
pins: 1, 2

## R-EU_VTA56
designator R?, comment <B>RESISTOR</B>, European symbol
SPICEPREFIX: R
footprint VTA56
pins: 1, 2

## R-EU_WSC0001
designator R?, comment <B>RESISTOR</B>, European symbol
SPICEPREFIX: R
footprint WSC0001
pins: 1, 2

## R-EU_WSC01/2
designator R?, comment <B>RESISTOR</B>, European symbol
SPICEPREFIX: R
footprint WSC01/2
pins: 1, 2

## R-EU_WSC0002
designator R?, comment <B>RESISTOR</B>, European symbol
SPICEPREFIX: R
footprint WSC0002
pins: 1, 2

## R-EU_WSC2515
designator R?, comment <B>RESISTOR</B>, European symbol
SPICEPREFIX: R
footprint WSC2515
pins: 1, 2

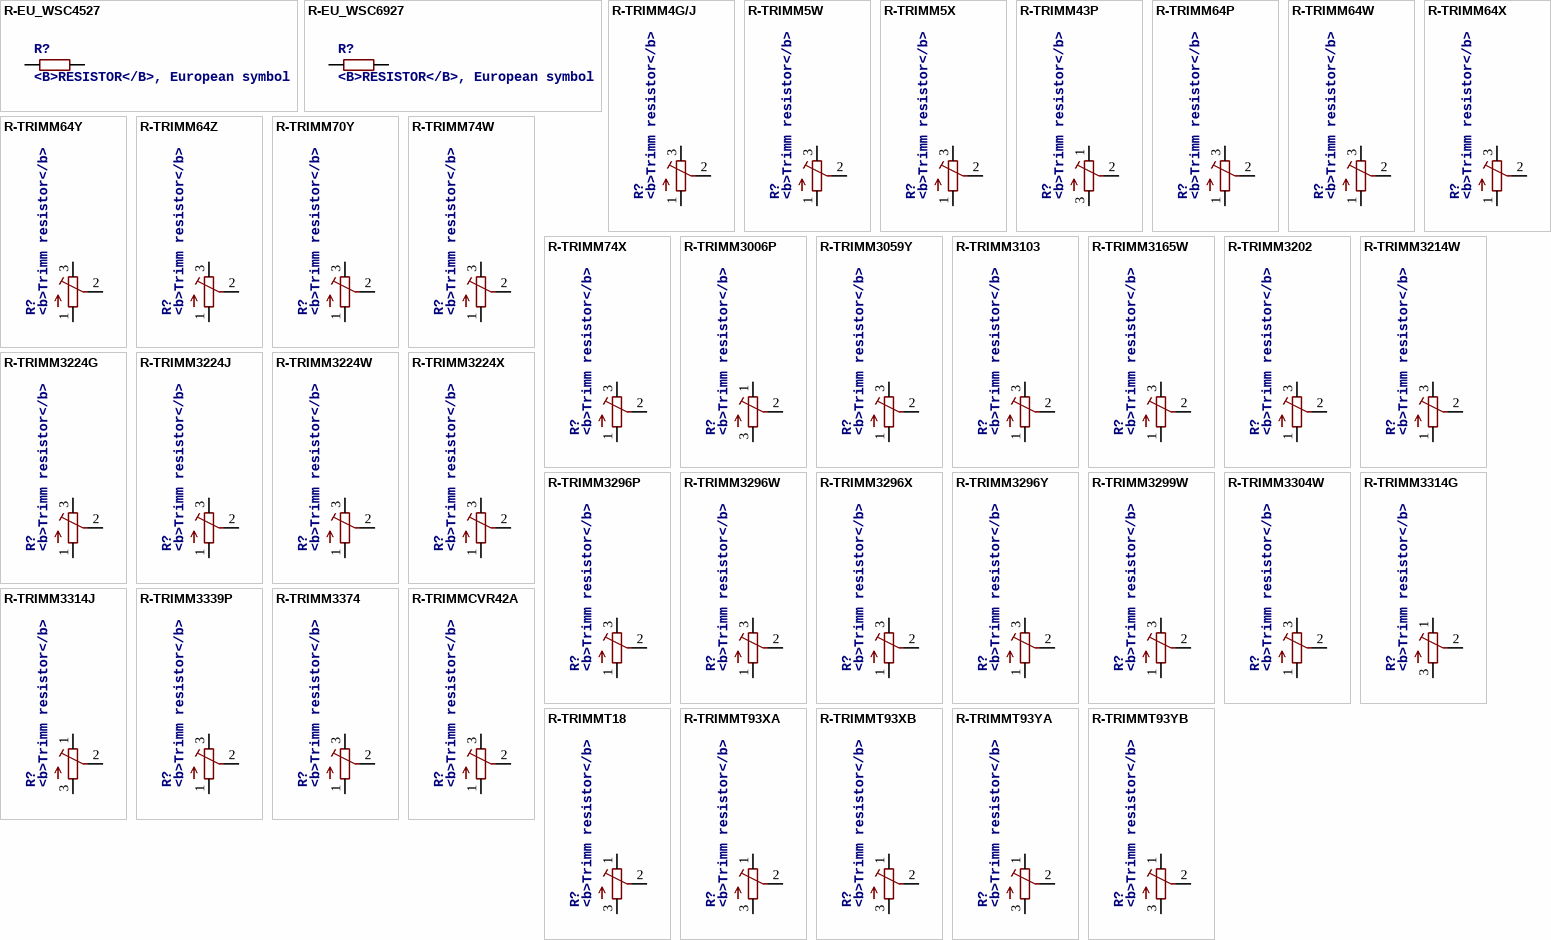
[diagram p20: symbols R-EU_WSC4527 to R-TRIMMT93YB]

## R-EU_WSC4527
designator R?, comment <B>RESISTOR</B>, European symbol
SPICEPREFIX: R
footprint WSC4527
pins: 1, 2

## R-EU_WSC6927
designator R?, comment <B>RESISTOR</B>, European symbol
SPICEPREFIX: R
footprint WSC6927
pins: 1, 2

## R-TRIMM4G/J
designator R?, comment <b>Trimm resistor</b>
SPICEMODEL: X; SPICEPREFIXL: POT
footprint RTRIM4G/J
pins: 1 A, 2 S, 3 E

## R-TRIMM5W
designator R?, comment <b>Trimm resistor</b>
SPICEMODEL: X; SPICEPREFIXL: POT
footprint RTRIM5W
pins: 1 A, 2 S, 3 E

## R-TRIMM5X
designator R?, comment <b>Trimm resistor</b>
SPICEMODEL: X; SPICEPREFIXL: POT
footprint RTRIM5X
pins: 1 A, 2 S, 3 E

## R-TRIMM43P
designator R?, comment <b>Trimm resistor</b>
SPICEMODEL: X; SPICEPREFIXL: POT
footprint RTRIM43P
pins: 1 E, 2 S, 3 A

## R-TRIMM64P
designator R?, comment <b>Trimm resistor</b>
SPICEMODEL: X; SPICEPREFIXL: POT
footprint RTRIM64P
pins: 1 A, 2 S, 3 E

## R-TRIMM64W
designator R?, comment <b>Trimm resistor</b>
SPICEMODEL: X; SPICEPREFIXL: POT
footprint RTRIM64W
pins: 1 A, 2 S, 3 E

## R-TRIMM64X
designator R?, comment <b>Trimm resistor</b>
SPICEMODEL: X; SPICEPREFIXL: POT
footprint RTRIM64X
pins: 1 A, 2 S, 3 E

## R-TRIMM64Y
designator R?, comment <b>Trimm resistor</b>
SPICEMODEL: X; SPICEPREFIXL: POT
footprint RTRIM64Y
pins: 1 A, 2 S, 3 E

## R-TRIMM64Z
designator R?, comment <b>Trimm resistor</b>
SPICEMODEL: X; SPICEPREFIXL: POT
footprint RTRIM64Z
pins: 1 A, 2 S, 3 E

## R-TRIMM70Y
designator R?, comment <b>Trimm resistor</b>
SPICEMODEL: X; SPICEPREFIXL: POT
footprint RTRIM70Y
pins: 1 A, 2 S, 3 E

## R-TRIMM74W
designator R?, comment <b>Trimm resistor</b>
SPICEMODEL: X; SPICEPREFIXL: POT
footprint RTRIM74W
pins: 1 A, 2 S, 3 E

## R-TRIMM74X
designator R?, comment <b>Trimm resistor</b>
SPICEMODEL: X; SPICEPREFIXL: POT
footprint RTRIM74X
pins: 1 A, 2 S, 3 E

## R-TRIMM3006P
designator R?, comment <b>Trimm resistor</b>
SPICEMODEL: X; SPICEPREFIXL: POT
footprint RTRIM3006P
pins: 1 E, 2 S, 3 A

## R-TRIMM3059Y
designator R?, comment <b>Trimm resistor</b>
SPICEMODEL: X; SPICEPREFIXL: POT
footprint RTRIM3059Y
pins: 1 A, 2 S, 3 E

## R-TRIMM3103
designator R?, comment <b>Trimm resistor</b>
SPICEMODEL: X; SPICEPREFIXL: POT
footprint RTRIM3103
pins: 1 A, 2 S, 3 E

## R-TRIMM3165W
designator R?, comment <b>Trimm resistor</b>
SPICEMODEL: X; SPICEPREFIXL: POT
footprint RTRIM3165W
pins: 1 A, 2 S, 3 E

## R-TRIMM3202
designator R?, comment <b>Trimm resistor</b>
SPICEMODEL: X; SPICEPREFIXL: POT
footprint RTRIM3202
pins: 1 A, 2 S, 3 E

## R-TRIMM3214W
designator R?, comment <b>Trimm resistor</b>
SPICEMODEL: X; SPICEPREFIXL: POT
footprint RTRIM3214W
pins: 1 A, 2 S, 3 E

## R-TRIMM3224G
designator R?, comment <b>Trimm resistor</b>
SPICEMODEL: X; SPICEPREFIXL: POT
footprint RTRIM3224G
pins: 1 A, 2 S, 3 E

## R-TRIMM3224J
designator R?, comment <b>Trimm resistor</b>
SPICEMODEL: X; SPICEPREFIXL: POT
footprint RTRIM3224J
pins: 1 A, 2 S, 3 E

## R-TRIMM3224W
designator R?, comment <b>Trimm resistor</b>
SPICEMODEL: X; SPICEPREFIXL: POT
footprint RTRIM3224W
pins: 1 A, 2 S, 3 E